# Altium schematic symbol library MCU_ST_STM32L4.SchLib: 320 symbols (part 5 of 9)
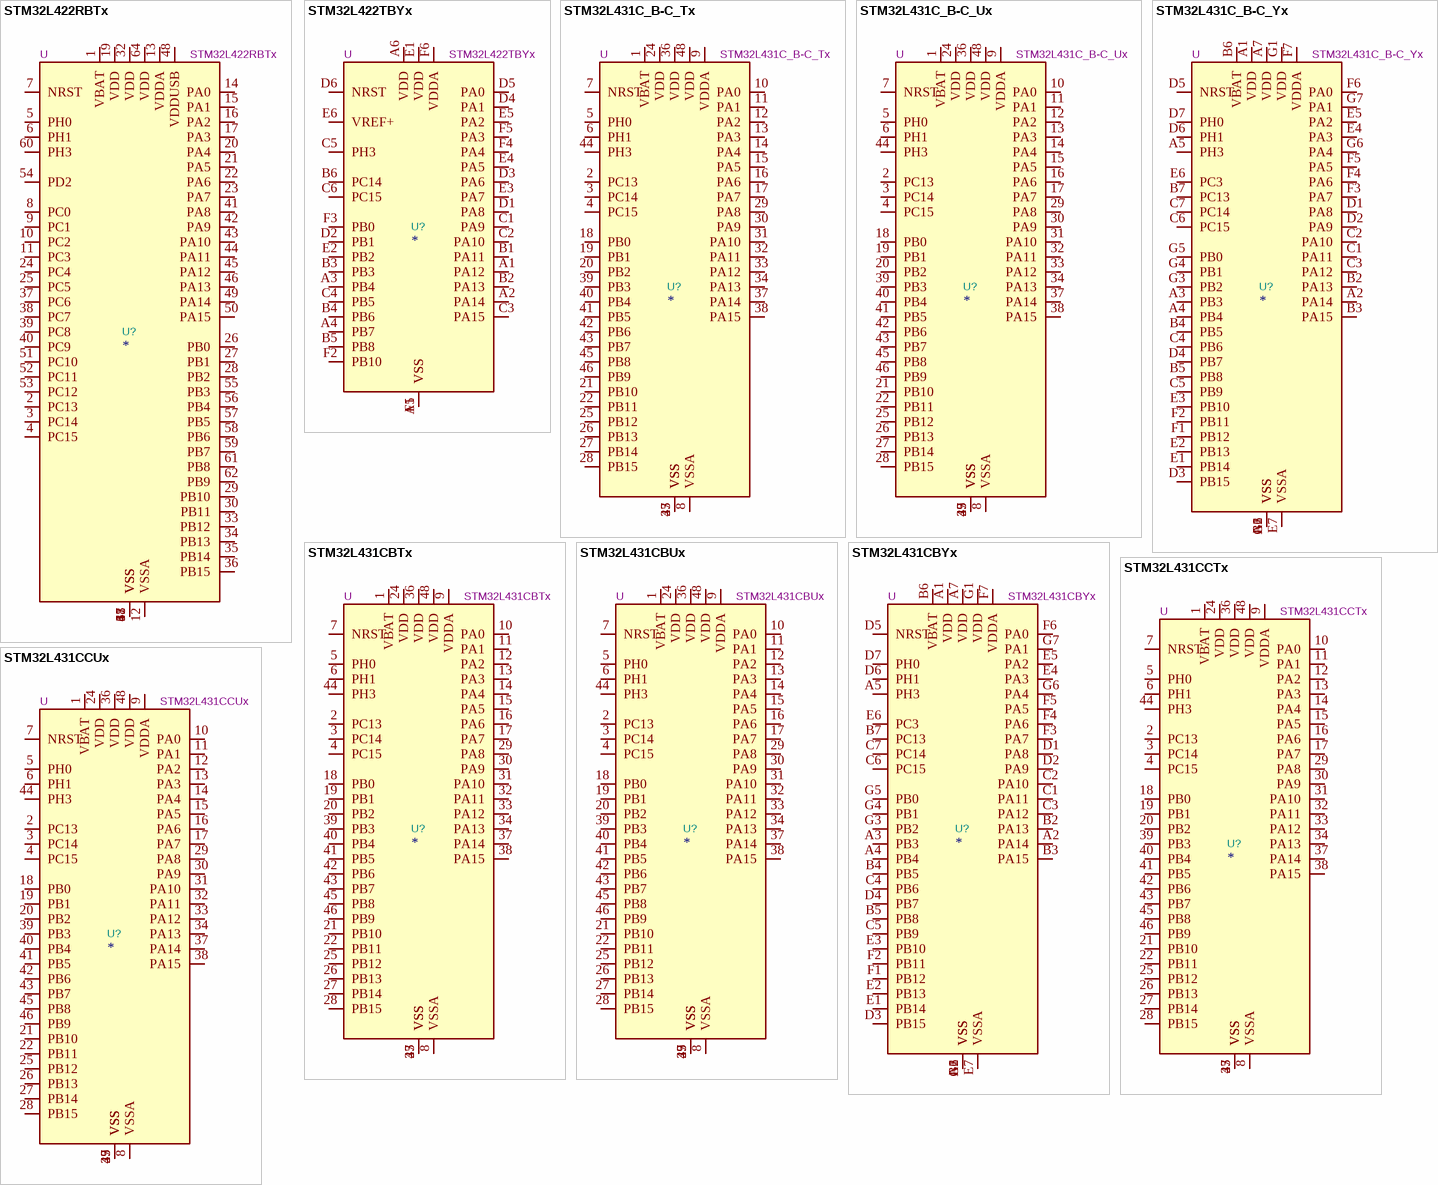
[diagram p67: symbols STM32L422RBTx to STM32L431CCUx]

## STM32L422RBTx
designator U?  value STM32L422RBTx  Reference: U
STMicroelectronics Arm Cortex-M4 MCU, 128KB flash, 40KB RAM, 80 MHz, 1.71-3.6V, 52 GPIO, LQFP64; ki_keywords: Arm Cortex-M4 STM32L4 STM32L4x2; ki_fp_filters: LQFP*10x10mm*P0.5mm*; Footprint: Package_QFP:LQFP-64_10x10mm_P0.5mm; Datasheet: https://www.st.com/resource/en/datasheet/stm32l422rb.pdf; Description_: STMicroelectronics Arm Cortex-M4 MCU, 128KB flash, 40KB RAM, 80 MHz, 1.71-3.6V, 52 GPIO, LQFP64
pins: 1 VBAT, 2 PC13, 3 PC14, 4 PC15, 5 PH0, 6 PH1, 7 NRST, 8 PC0, 9 PC1, 10 PC2, 11 PC3, 12 VSSA, 13 VDDA, 14 PA0, 15 PA1, 16 PA2, 17 PA3, 18 VSS, 19 VDD, 20 PA4, 21 PA5, 22 PA6, 23 PA7, 24 PC4, 25 PC5, 26 PB0, 27 PB1, 28 PB2, 29 PB10, 30 PB11, 31 VSS, 32 VDD, 33 PB12, 34 PB13, 35 PB14, 36 PB15, 37 PC6, 38 PC7, 39 PC8, 40 PC9, 41 PA8, 42 PA9, 43 PA10, 44 PA11, 45 PA12, 46 PA13, 47 VSS, 48 VDDUSB, 49 PA14, 50 PA15, 51 PC10, 52 PC11, 53 PC12, 54 PD2, 55 PB3, 56 PB4, 57 PB5, 58 PB6, 59 PB7, 60 PH3, 61 PB8, 62 PB9, 63 VSS, 64 VDD

## STM32L422TBYx
designator U?  value STM32L422TBYx  Reference: U
STMicroelectronics Arm Cortex-M4 MCU, 128KB flash, 40KB RAM, 80 MHz, 1.71-3.6V, 29 GPIO, WLCSP36; ki_keywords: Arm Cortex-M4 STM32L4 STM32L4x2; ki_fp_filters: ST*WLCSP*2.58x3.07mm*Layout6x6*P0.4mm*; Footprint: Package_CSP:ST_WLCSP-36_2.58x3.07mm_Layout6x6_P0.4mm; Datasheet: https://www.st.com/resource/en/datasheet/stm32l422tb.pdf; Description_: STMicroelectronics Arm Cortex-M4 MCU, 128KB flash, 40KB RAM, 80 MHz, 1.71-3.6V, 29 GPIO, WLCSP36
pins: A1 PA12, A2 PA14, A3 PB4, A4 PB7, A5 VSS, A6 VDD, B1 PA11, B2 PA13, B3 PB3, B4 PB6, B5 PB8, B6 PC14, C1 PA9, C2 PA10, C3 PA15, C4 PB5, C5 PH3, C6 PC15, D1 PA8, D2 PB1, D3 PA6, D4 PA1, D5 PA0, D6 NRST, E1 VDD, E2 PB2, E3 PA7, E4 PA5, E5 PA2, E6 VREF+, F1 VSS, F2 PB10, F3 PB0, F4 PA4, F5 PA3, F6 VDDA

## STM32L431C_B-C_Tx
designator U?  value STM32L431C_B-C_Tx  Reference: U
STMicroelectronics Arm Cortex-M4 MCU, 128-256KB flash, 64KB RAM, 80 MHz, 1.71-3.6V, 38 GPIO, LQFP48; ki_keywords: Arm Cortex-M4 STM32L4 STM32L4x1; ki_fp_filters: LQFP*7x7mm*P0.5mm*; Footprint: Package_QFP:LQFP-48_7x7mm_P0.5mm; Datasheet: https://www.st.com/resource/en/datasheet/stm32l431cb.pdf; Description_: STMicroelectronics Arm Cortex-M4 MCU, 128-256KB flash, 64KB RAM, 80 MHz, 1.71-3.6V, 38 GPIO, LQFP48
pins: 1 VBAT, 2 PC13, 3 PC14, 4 PC15, 5 PH0, 6 PH1, 7 NRST, 8 VSSA, 9 VDDA, 10 PA0, 11 PA1, 12 PA2, 13 PA3, 14 PA4, 15 PA5, 16 PA6, 17 PA7, 18 PB0, 19 PB1, 20 PB2, 21 PB10, 22 PB11, 23 VSS, 24 VDD, 25 PB12, 26 PB13, 27 PB14, 28 PB15, 29 PA8, 30 PA9, 31 PA10, 32 PA11, 33 PA12, 34 PA13, 35 VSS, 36 VDD, 37 PA14, 38 PA15, 39 PB3, 40 PB4, 41 PB5, 42 PB6, 43 PB7, 44 PH3, 45 PB8, 46 PB9, 47 VSS, 48 VDD

## STM32L431C_B-C_Ux
designator U?  value STM32L431C_B-C_Ux  Reference: U
STMicroelectronics Arm Cortex-M4 MCU, 128-256KB flash, 64KB RAM, 80 MHz, 1.71-3.6V, 38 GPIO, UFQFPN48; ki_keywords: Arm Cortex-M4 STM32L4 STM32L4x1; ki_fp_filters: QFN*1EP*7x7mm*P0.5mm*; Footprint: Package_DFN_QFN:QFN-48-1EP_7x7mm_P0.5mm_EP5.6x5.6mm; Datasheet: https://www.st.com/resource/en/datasheet/stm32l431cb.pdf; Description_: STMicroelectronics Arm Cortex-M4 MCU, 128-256KB flash, 64KB RAM, 80 MHz, 1.71-3.6V, 38 GPIO, UFQFPN48
pins: 1 VBAT, 2 PC13, 3 PC14, 4 PC15, 5 PH0, 6 PH1, 7 NRST, 8 VSSA, 9 VDDA, 10 PA0, 11 PA1, 12 PA2, 13 PA3, 14 PA4, 15 PA5, 16 PA6, 17 PA7, 18 PB0, 19 PB1, 20 PB2, 21 PB10, 22 PB11, 23 VSS, 24 VDD, 25 PB12, 26 PB13, 27 PB14, 28 PB15, 29 PA8, 30 PA9, 31 PA10, 32 PA11, 33 PA12, 34 PA13, 35 VSS, 36 VDD, 37 PA14, 38 PA15, 39 PB3, 40 PB4, 41 PB5, 42 PB6, 43 PB7, 44 PH3, 45 PB8, 46 PB9, 47 VSS, 48 VDD, 49 VSS

## STM32L431C_B-C_Yx
designator U?  value STM32L431C_B-C_Yx  Reference: U
STMicroelectronics Arm Cortex-M4 MCU, 128-256KB flash, 64KB RAM, 80 MHz, 1.71-3.6V, 39 GPIO, WLCSP49; ki_keywords: Arm Cortex-M4 STM32L4 STM32L4x1; ki_fp_filters: ST*WLCSP*Die435*; Footprint: Package_CSP:ST_WLCSP-49_Die435; Datasheet: https://www.st.com/resource/en/datasheet/stm32l431cb.pdf; Description_: STMicroelectronics Arm Cortex-M4 MCU, 128-256KB flash, 64KB RAM, 80 MHz, 1.71-3.6V, 39 GPIO, WLCSP49
pins: A1 VDD, A2 PA14, A3 PB3, A4 PB4, A5 PH3, A6 VSS, A7 VDD, B1 VSS, B2 PA13, B3 PA15, B4 PB5, B5 PB8, B6 VBAT, B7 PC13, C1 PA11, C2 PA10, C3 PA12, C4 PB6, C5 PB9, C6 PC15, C7 PC14, D1 PA8, D2 PA9, D3 PB15, D4 PB7, D5 NRST, D6 PH1, D7 PH0, E1 PB14, E2 PB13, E3 PB10, E4 PA3, E5 PA2, E6 PC3, E7 VSSA, F1 PB12, F2 PB11, F3 PA7, F4 PA6, F5 PA5, F6 PA0, F7 VDDA, G1 VDD, G2 VSS, G3 PB2, G4 PB1, G5 PB0, G6 PA4, G7 PA1

## STM32L431CBTx
designator U?  value STM32L431CBTx  Reference: U
STMicroelectronics Arm Cortex-M4 MCU, 128KB flash, 64KB RAM, 80 MHz, 1.71-3.6V, 38 GPIO, LQFP48; ki_keywords: Arm Cortex-M4 STM32L4 STM32L4x1; ki_fp_filters: LQFP*7x7mm*P0.5mm*; Footprint: Package_QFP:LQFP-48_7x7mm_P0.5mm; Datasheet: https://www.st.com/resource/en/datasheet/stm32l431cb.pdf; Description_: STMicroelectronics Arm Cortex-M4 MCU, 128KB flash, 64KB RAM, 80 MHz, 1.71-3.6V, 38 GPIO, LQFP48
pins: 1 VBAT, 2 PC13, 3 PC14, 4 PC15, 5 PH0, 6 PH1, 7 NRST, 8 VSSA, 9 VDDA, 10 PA0, 11 PA1, 12 PA2, 13 PA3, 14 PA4, 15 PA5, 16 PA6, 17 PA7, 18 PB0, 19 PB1, 20 PB2, 21 PB10, 22 PB11, 23 VSS, 24 VDD, 25 PB12, 26 PB13, 27 PB14, 28 PB15, 29 PA8, 30 PA9, 31 PA10, 32 PA11, 33 PA12, 34 PA13, 35 VSS, 36 VDD, 37 PA14, 38 PA15, 39 PB3, 40 PB4, 41 PB5, 42 PB6, 43 PB7, 44 PH3, 45 PB8, 46 PB9, 47 VSS, 48 VDD

## STM32L431CBUx
designator U?  value STM32L431CBUx  Reference: U
STMicroelectronics Arm Cortex-M4 MCU, 128KB flash, 64KB RAM, 80 MHz, 1.71-3.6V, 38 GPIO, UFQFPN48; ki_keywords: Arm Cortex-M4 STM32L4 STM32L4x1; ki_fp_filters: QFN*1EP*7x7mm*P0.5mm*; Footprint: Package_DFN_QFN:QFN-48-1EP_7x7mm_P0.5mm_EP5.6x5.6mm; Datasheet: https://www.st.com/resource/en/datasheet/stm32l431cb.pdf; Description_: STMicroelectronics Arm Cortex-M4 MCU, 128KB flash, 64KB RAM, 80 MHz, 1.71-3.6V, 38 GPIO, UFQFPN48
pins: 1 VBAT, 2 PC13, 3 PC14, 4 PC15, 5 PH0, 6 PH1, 7 NRST, 8 VSSA, 9 VDDA, 10 PA0, 11 PA1, 12 PA2, 13 PA3, 14 PA4, 15 PA5, 16 PA6, 17 PA7, 18 PB0, 19 PB1, 20 PB2, 21 PB10, 22 PB11, 23 VSS, 24 VDD, 25 PB12, 26 PB13, 27 PB14, 28 PB15, 29 PA8, 30 PA9, 31 PA10, 32 PA11, 33 PA12, 34 PA13, 35 VSS, 36 VDD, 37 PA14, 38 PA15, 39 PB3, 40 PB4, 41 PB5, 42 PB6, 43 PB7, 44 PH3, 45 PB8, 46 PB9, 47 VSS, 48 VDD, 49 VSS

## STM32L431CBYx
designator U?  value STM32L431CBYx  Reference: U
STMicroelectronics Arm Cortex-M4 MCU, 128KB flash, 64KB RAM, 80 MHz, 1.71-3.6V, 39 GPIO, WLCSP49; ki_keywords: Arm Cortex-M4 STM32L4 STM32L4x1; ki_fp_filters: ST*WLCSP*Die435*; Footprint: Package_CSP:ST_WLCSP-49_Die435; Datasheet: https://www.st.com/resource/en/datasheet/stm32l431cb.pdf; Description_: STMicroelectronics Arm Cortex-M4 MCU, 128KB flash, 64KB RAM, 80 MHz, 1.71-3.6V, 39 GPIO, WLCSP49
pins: A1 VDD, A2 PA14, A3 PB3, A4 PB4, A5 PH3, A6 VSS, A7 VDD, B1 VSS, B2 PA13, B3 PA15, B4 PB5, B5 PB8, B6 VBAT, B7 PC13, C1 PA11, C2 PA10, C3 PA12, C4 PB6, C5 PB9, C6 PC15, C7 PC14, D1 PA8, D2 PA9, D3 PB15, D4 PB7, D5 NRST, D6 PH1, D7 PH0, E1 PB14, E2 PB13, E3 PB10, E4 PA3, E5 PA2, E6 PC3, E7 VSSA, F1 PB12, F2 PB11, F3 PA7, F4 PA6, F5 PA5, F6 PA0, F7 VDDA, G1 VDD, G2 VSS, G3 PB2, G4 PB1, G5 PB0, G6 PA4, G7 PA1

## STM32L431CCTx
designator U?  value STM32L431CCTx  Reference: U
STMicroelectronics Arm Cortex-M4 MCU, 256KB flash, 64KB RAM, 80 MHz, 1.71-3.6V, 38 GPIO, LQFP48; ki_keywords: Arm Cortex-M4 STM32L4 STM32L4x1; ki_fp_filters: LQFP*7x7mm*P0.5mm*; Footprint: Package_QFP:LQFP-48_7x7mm_P0.5mm; Datasheet: https://www.st.com/resource/en/datasheet/stm32l431cc.pdf; Description_: STMicroelectronics Arm Cortex-M4 MCU, 256KB flash, 64KB RAM, 80 MHz, 1.71-3.6V, 38 GPIO, LQFP48
pins: 1 VBAT, 2 PC13, 3 PC14, 4 PC15, 5 PH0, 6 PH1, 7 NRST, 8 VSSA, 9 VDDA, 10 PA0, 11 PA1, 12 PA2, 13 PA3, 14 PA4, 15 PA5, 16 PA6, 17 PA7, 18 PB0, 19 PB1, 20 PB2, 21 PB10, 22 PB11, 23 VSS, 24 VDD, 25 PB12, 26 PB13, 27 PB14, 28 PB15, 29 PA8, 30 PA9, 31 PA10, 32 PA11, 33 PA12, 34 PA13, 35 VSS, 36 VDD, 37 PA14, 38 PA15, 39 PB3, 40 PB4, 41 PB5, 42 PB6, 43 PB7, 44 PH3, 45 PB8, 46 PB9, 47 VSS, 48 VDD

## STM32L431CCUx
designator U?  value STM32L431CCUx  Reference: U
STMicroelectronics Arm Cortex-M4 MCU, 256KB flash, 64KB RAM, 80 MHz, 1.71-3.6V, 38 GPIO, UFQFPN48; ki_keywords: Arm Cortex-M4 STM32L4 STM32L4x1; ki_fp_filters: QFN*1EP*7x7mm*P0.5mm*; Footprint: Package_DFN_QFN:QFN-48-1EP_7x7mm_P0.5mm_EP5.6x5.6mm; Datasheet: https://www.st.com/resource/en/datasheet/stm32l431cc.pdf; Description_: STMicroelectronics Arm Cortex-M4 MCU, 256KB flash, 64KB RAM, 80 MHz, 1.71-3.6V, 38 GPIO, UFQFPN48
pins: 1 VBAT, 2 PC13, 3 PC14, 4 PC15, 5 PH0, 6 PH1, 7 NRST, 8 VSSA, 9 VDDA, 10 PA0, 11 PA1, 12 PA2, 13 PA3, 14 PA4, 15 PA5, 16 PA6, 17 PA7, 18 PB0, 19 PB1, 20 PB2, 21 PB10, 22 PB11, 23 VSS, 24 VDD, 25 PB12, 26 PB13, 27 PB14, 28 PB15, 29 PA8, 30 PA9, 31 PA10, 32 PA11, 33 PA12, 34 PA13, 35 VSS, 36 VDD, 37 PA14, 38 PA15, 39 PB3, 40 PB4, 41 PB5, 42 PB6, 43 PB7, 44 PH3, 45 PB8, 46 PB9, 47 VSS, 48 VDD, 49 VSS

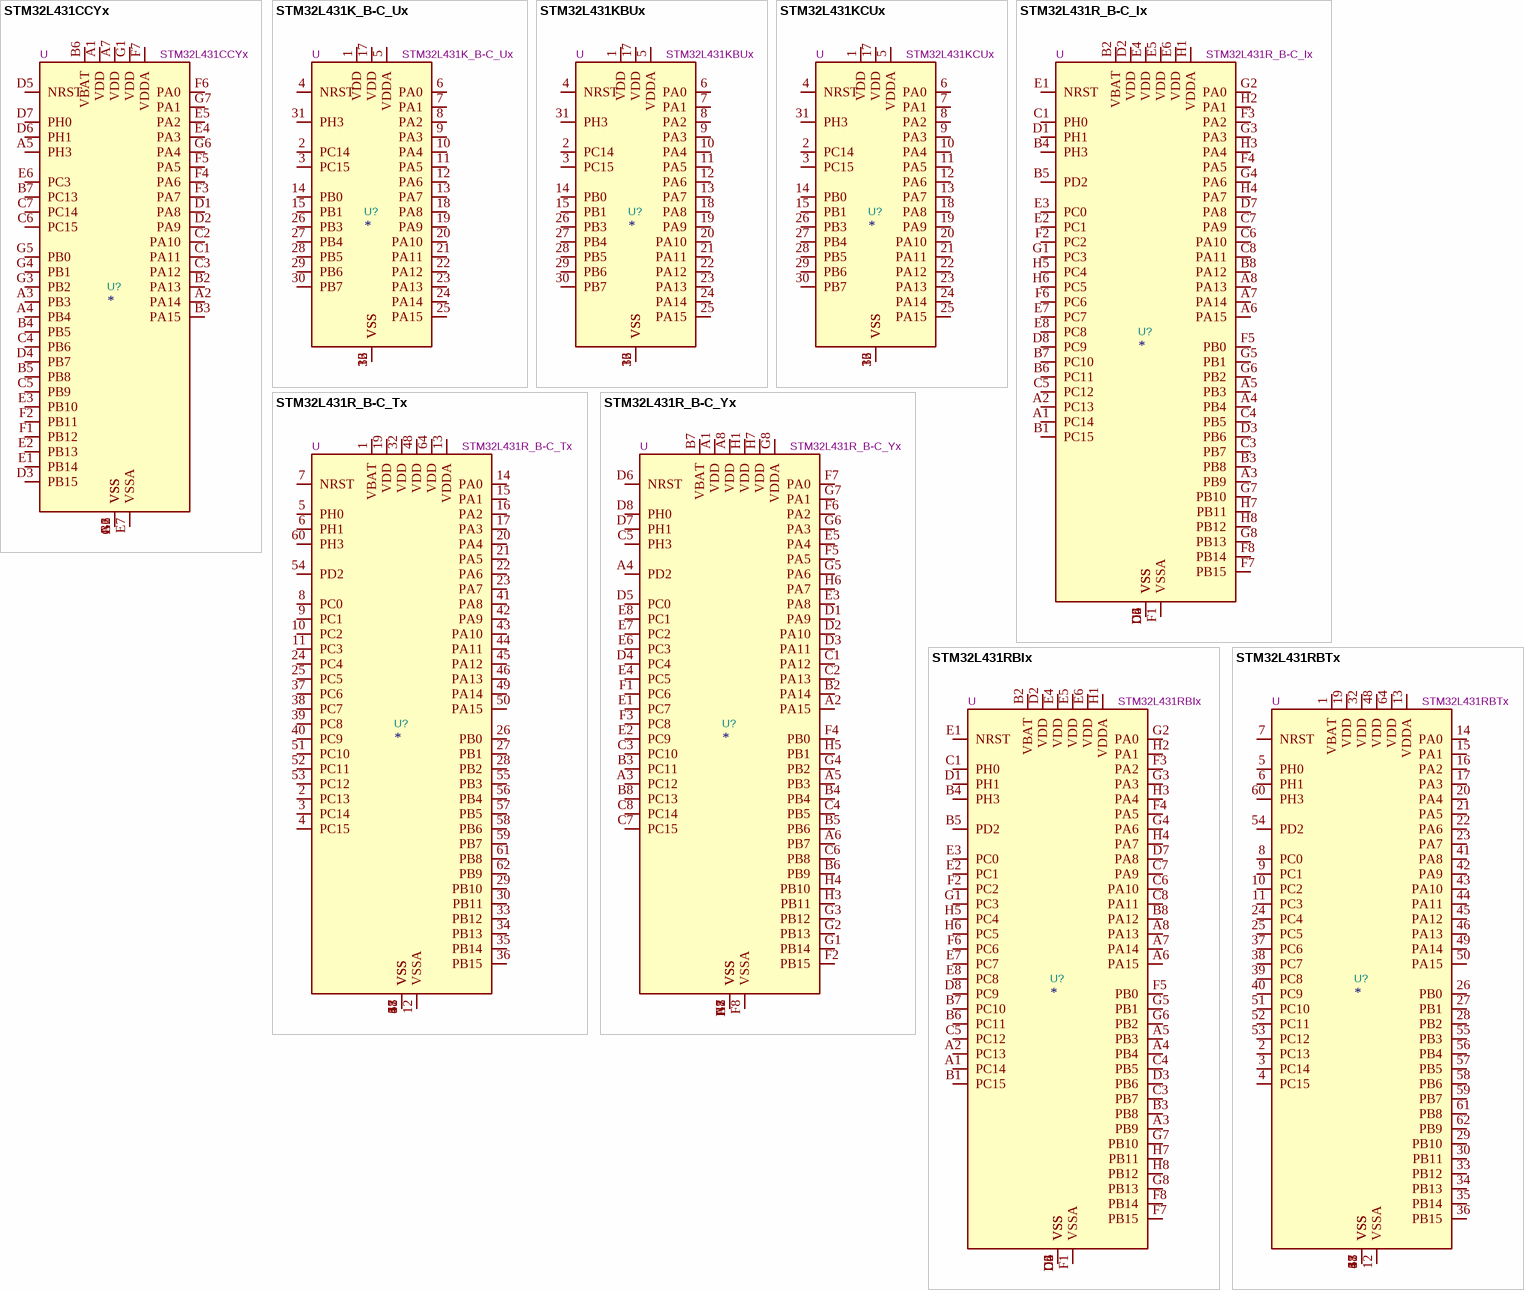
[diagram p35: symbols STM32L431CCYx to STM32L431RBTx]

## STM32L431CCYx
designator U?  value STM32L431CCYx  Reference: U
STMicroelectronics Arm Cortex-M4 MCU, 256KB flash, 64KB RAM, 80 MHz, 1.71-3.6V, 39 GPIO, WLCSP49; ki_keywords: Arm Cortex-M4 STM32L4 STM32L4x1; ki_fp_filters: ST*WLCSP*Die435*; Footprint: Package_CSP:ST_WLCSP-49_Die435; Datasheet: https://www.st.com/resource/en/datasheet/stm32l431cc.pdf; Description_: STMicroelectronics Arm Cortex-M4 MCU, 256KB flash, 64KB RAM, 80 MHz, 1.71-3.6V, 39 GPIO, WLCSP49
pins: A1 VDD, A2 PA14, A3 PB3, A4 PB4, A5 PH3, A6 VSS, A7 VDD, B1 VSS, B2 PA13, B3 PA15, B4 PB5, B5 PB8, B6 VBAT, B7 PC13, C1 PA11, C2 PA10, C3 PA12, C4 PB6, C5 PB9, C6 PC15, C7 PC14, D1 PA8, D2 PA9, D3 PB15, D4 PB7, D5 NRST, D6 PH1, D7 PH0, E1 PB14, E2 PB13, E3 PB10, E4 PA3, E5 PA2, E6 PC3, E7 VSSA, F1 PB12, F2 PB11, F3 PA7, F4 PA6, F5 PA5, F6 PA0, F7 VDDA, G1 VDD, G2 VSS, G3 PB2, G4 PB1, G5 PB0, G6 PA4, G7 PA1

## STM32L431K_B-C_Ux
designator U?  value STM32L431K_B-C_Ux  Reference: U
STMicroelectronics Arm Cortex-M4 MCU, 128-256KB flash, 64KB RAM, 80 MHz, 1.71-3.6V, 26 GPIO, UFQFPN32; ki_keywords: Arm Cortex-M4 STM32L4 STM32L4x1; ki_fp_filters: QFN*1EP*5x5mm*P0.5mm*; Footprint: Package_DFN_QFN:QFN-32-1EP_5x5mm_P0.5mm_EP3.45x3.45mm; Datasheet: https://www.st.com/resource/en/datasheet/stm32l431kb.pdf; Description_: STMicroelectronics Arm Cortex-M4 MCU, 128-256KB flash, 64KB RAM, 80 MHz, 1.71-3.6V, 26 GPIO, UFQFPN32
pins: 1 VDD, 2 PC14, 3 PC15, 4 NRST, 5 VDDA, 6 PA0, 7 PA1, 8 PA2, 9 PA3, 10 PA4, 11 PA5, 12 PA6, 13 PA7, 14 PB0, 15 PB1, 16 VSS, 17 VDD, 18 PA8, 19 PA9, 20 PA10, 21 PA11, 22 PA12, 23 PA13, 24 PA14, 25 PA15, 26 PB3, 27 PB4, 28 PB5, 29 PB6, 30 PB7, 31 PH3, 32 VSS, 33 VSS

## STM32L431KBUx
designator U?  value STM32L431KBUx  Reference: U
STMicroelectronics Arm Cortex-M4 MCU, 128KB flash, 64KB RAM, 80 MHz, 1.71-3.6V, 26 GPIO, UFQFPN32; ki_keywords: Arm Cortex-M4 STM32L4 STM32L4x1; ki_fp_filters: QFN*1EP*5x5mm*P0.5mm*; Footprint: Package_DFN_QFN:QFN-32-1EP_5x5mm_P0.5mm_EP3.45x3.45mm; Datasheet: https://www.st.com/resource/en/datasheet/stm32l431kb.pdf; Description_: STMicroelectronics Arm Cortex-M4 MCU, 128KB flash, 64KB RAM, 80 MHz, 1.71-3.6V, 26 GPIO, UFQFPN32
pins: 1 VDD, 2 PC14, 3 PC15, 4 NRST, 5 VDDA, 6 PA0, 7 PA1, 8 PA2, 9 PA3, 10 PA4, 11 PA5, 12 PA6, 13 PA7, 14 PB0, 15 PB1, 16 VSS, 17 VDD, 18 PA8, 19 PA9, 20 PA10, 21 PA11, 22 PA12, 23 PA13, 24 PA14, 25 PA15, 26 PB3, 27 PB4, 28 PB5, 29 PB6, 30 PB7, 31 PH3, 32 VSS, 33 VSS

## STM32L431KCUx
designator U?  value STM32L431KCUx  Reference: U
STMicroelectronics Arm Cortex-M4 MCU, 256KB flash, 64KB RAM, 80 MHz, 1.71-3.6V, 26 GPIO, UFQFPN32; ki_keywords: Arm Cortex-M4 STM32L4 STM32L4x1; ki_fp_filters: QFN*1EP*5x5mm*P0.5mm*; Footprint: Package_DFN_QFN:QFN-32-1EP_5x5mm_P0.5mm_EP3.45x3.45mm; Datasheet: https://www.st.com/resource/en/datasheet/stm32l431kc.pdf; Description_: STMicroelectronics Arm Cortex-M4 MCU, 256KB flash, 64KB RAM, 80 MHz, 1.71-3.6V, 26 GPIO, UFQFPN32
pins: 1 VDD, 2 PC14, 3 PC15, 4 NRST, 5 VDDA, 6 PA0, 7 PA1, 8 PA2, 9 PA3, 10 PA4, 11 PA5, 12 PA6, 13 PA7, 14 PB0, 15 PB1, 16 VSS, 17 VDD, 18 PA8, 19 PA9, 20 PA10, 21 PA11, 22 PA12, 23 PA13, 24 PA14, 25 PA15, 26 PB3, 27 PB4, 28 PB5, 29 PB6, 30 PB7, 31 PH3, 32 VSS, 33 VSS

## STM32L431R_B-C_Ix
designator U?  value STM32L431R_B-C_Ix  Reference: U
STMicroelectronics Arm Cortex-M4 MCU, 128-256KB flash, 64KB RAM, 80 MHz, 1.71-3.6V, 52 GPIO, UFBGA64; ki_keywords: Arm Cortex-M4 STM32L4 STM32L4x1; ki_fp_filters: UFBGA*5x5mm*Layout8x8*P0.5mm*; Footprint: Package_BGA:UFBGA-64_5x5mm_Layout8x8_P0.5mm; Datasheet: https://www.st.com/resource/en/datasheet/stm32l431rb.pdf; Description_: STMicroelectronics Arm Cortex-M4 MCU, 128-256KB flash, 64KB RAM, 80 MHz, 1.71-3.6V, 52 GPIO, UFBGA64
pins: A1 PC14, A2 PC13, A3 PB9, A4 PB4, A5 PB3, A6 PA15, A7 PA14, A8 PA13, B1 PC15, B2 VBAT, B3 PB8, B4 PH3, B5 PD2, B6 PC11, B7 PC10, B8 PA12, C1 PH0, C2 VSS, C3 PB7, C4 PB5, C5 PC12, C6 PA10, C7 PA9, C8 PA11, D1 PH1, D2 VDD, D3 PB6, D4 VSS, D5 VSS, D6 VSS, D7 PA8, D8 PC9, E1 NRST, E2 PC1, E3 PC0, E4 VDD, E5 VDD, E6 VDD, E7 PC7, E8 PC8, F1 VSSA, F2 PC2, F3 PA2, F4 PA5, F5 PB0, F6 PC6, F7 PB15, F8 PB14, G1 PC3, G2 PA0, G3 PA3, G4 PA6, G5 PB1, G6 PB2, G7 PB10, G8 PB13, H1 VDDA, H2 PA1, H3 PA4, H4 PA7, H5 PC4, H6 PC5, H7 PB11, H8 PB12

## STM32L431R_B-C_Tx
designator U?  value STM32L431R_B-C_Tx  Reference: U
STMicroelectronics Arm Cortex-M4 MCU, 128-256KB flash, 64KB RAM, 80 MHz, 1.71-3.6V, 52 GPIO, LQFP64; ki_keywords: Arm Cortex-M4 STM32L4 STM32L4x1; ki_fp_filters: LQFP*10x10mm*P0.5mm*; Footprint: Package_QFP:LQFP-64_10x10mm_P0.5mm; Datasheet: https://www.st.com/resource/en/datasheet/stm32l431rb.pdf; Description_: STMicroelectronics Arm Cortex-M4 MCU, 128-256KB flash, 64KB RAM, 80 MHz, 1.71-3.6V, 52 GPIO, LQFP64
pins: 1 VBAT, 2 PC13, 3 PC14, 4 PC15, 5 PH0, 6 PH1, 7 NRST, 8 PC0, 9 PC1, 10 PC2, 11 PC3, 12 VSSA, 13 VDDA, 14 PA0, 15 PA1, 16 PA2, 17 PA3, 18 VSS, 19 VDD, 20 PA4, 21 PA5, 22 PA6, 23 PA7, 24 PC4, 25 PC5, 26 PB0, 27 PB1, 28 PB2, 29 PB10, 30 PB11, 31 VSS, 32 VDD, 33 PB12, 34 PB13, 35 PB14, 36 PB15, 37 PC6, 38 PC7, 39 PC8, 40 PC9, 41 PA8, 42 PA9, 43 PA10, 44 PA11, 45 PA12, 46 PA13, 47 VSS, 48 VDD, 49 PA14, 50 PA15, 51 PC10, 52 PC11, 53 PC12, 54 PD2, 55 PB3, 56 PB4, 57 PB5, 58 PB6, 59 PB7, 60 PH3, 61 PB8, 62 PB9, 63 VSS, 64 VDD

## STM32L431R_B-C_Yx
designator U?  value STM32L431R_B-C_Yx  Reference: U
STMicroelectronics Arm Cortex-M4 MCU, 128-256KB flash, 64KB RAM, 80 MHz, 1.71-3.6V, 52 GPIO, WLCSP64; ki_keywords: Arm Cortex-M4 STM32L4 STM32L4x1; ki_fp_filters: ST*WLCSP*Die435*; Footprint: Package_CSP:ST_WLCSP-64_Die435; Datasheet: https://www.st.com/resource/en/datasheet/stm32l431rb.pdf; Description_: STMicroelectronics Arm Cortex-M4 MCU, 128-256KB flash, 64KB RAM, 80 MHz, 1.71-3.6V, 52 GPIO, WLCSP64
pins: A1 VDD, A2 PA15, A3 PC12, A4 PD2, A5 PB3, A6 PB7, A7 VSS, A8 VDD, B1 VSS, B2 PA14, B3 PC11, B4 PB4, B5 PB6, B6 PB9, B7 VBAT, B8 PC13, C1 PA12, C2 PA13, C3 PC10, C4 PB5, C5 PH3, C6 PB8, C7 PC15, C8 PC14, D1 PA9, D2 PA10, D3 PA11, D4 PC4, D5 PC0, D6 NRST, D7 PH1, D8 PH0, E1 PC7, E2 PC9, E3 PA8, E4 PC5, E5 PA4, E6 PC3, E7 PC2, E8 PC1, F1 PC6, F2 PB15, F3 PC8, F4 PB0, F5 PA5, F6 PA2, F7 PA0, F8 VSSA, G1 PB14, G2 PB13, G3 PB12, G4 PB2, G5 PA6, G6 PA3, G7 PA1, G8 VDDA, H1 VDD, H2 VSS, H3 PB11, H4 PB10, H5 PB1, H6 PA7, H7 VDD, H8 VSS

## STM32L431RBIx
designator U?  value STM32L431RBIx  Reference: U
STMicroelectronics Arm Cortex-M4 MCU, 128KB flash, 64KB RAM, 80 MHz, 1.71-3.6V, 52 GPIO, UFBGA64; ki_keywords: Arm Cortex-M4 STM32L4 STM32L4x1; ki_fp_filters: UFBGA*5x5mm*Layout8x8*P0.5mm*; Footprint: Package_BGA:UFBGA-64_5x5mm_Layout8x8_P0.5mm; Datasheet: https://www.st.com/resource/en/datasheet/stm32l431rb.pdf; Description_: STMicroelectronics Arm Cortex-M4 MCU, 128KB flash, 64KB RAM, 80 MHz, 1.71-3.6V, 52 GPIO, UFBGA64
pins: A1 PC14, A2 PC13, A3 PB9, A4 PB4, A5 PB3, A6 PA15, A7 PA14, A8 PA13, B1 PC15, B2 VBAT, B3 PB8, B4 PH3, B5 PD2, B6 PC11, B7 PC10, B8 PA12, C1 PH0, C2 VSS, C3 PB7, C4 PB5, C5 PC12, C6 PA10, C7 PA9, C8 PA11, D1 PH1, D2 VDD, D3 PB6, D4 VSS, D5 VSS, D6 VSS, D7 PA8, D8 PC9, E1 NRST, E2 PC1, E3 PC0, E4 VDD, E5 VDD, E6 VDD, E7 PC7, E8 PC8, F1 VSSA, F2 PC2, F3 PA2, F4 PA5, F5 PB0, F6 PC6, F7 PB15, F8 PB14, G1 PC3, G2 PA0, G3 PA3, G4 PA6, G5 PB1, G6 PB2, G7 PB10, G8 PB13, H1 VDDA, H2 PA1, H3 PA4, H4 PA7, H5 PC4, H6 PC5, H7 PB11, H8 PB12

## STM32L431RBTx
designator U?  value STM32L431RBTx  Reference: U
STMicroelectronics Arm Cortex-M4 MCU, 128KB flash, 64KB RAM, 80 MHz, 1.71-3.6V, 52 GPIO, LQFP64; ki_keywords: Arm Cortex-M4 STM32L4 STM32L4x1; ki_fp_filters: LQFP*10x10mm*P0.5mm*; Footprint: Package_QFP:LQFP-64_10x10mm_P0.5mm; Datasheet: https://www.st.com/resource/en/datasheet/stm32l431rb.pdf; Description_: STMicroelectronics Arm Cortex-M4 MCU, 128KB flash, 64KB RAM, 80 MHz, 1.71-3.6V, 52 GPIO, LQFP64
pins: 1 VBAT, 2 PC13, 3 PC14, 4 PC15, 5 PH0, 6 PH1, 7 NRST, 8 PC0, 9 PC1, 10 PC2, 11 PC3, 12 VSSA, 13 VDDA, 14 PA0, 15 PA1, 16 PA2, 17 PA3, 18 VSS, 19 VDD, 20 PA4, 21 PA5, 22 PA6, 23 PA7, 24 PC4, 25 PC5, 26 PB0, 27 PB1, 28 PB2, 29 PB10, 30 PB11, 31 VSS, 32 VDD, 33 PB12, 34 PB13, 35 PB14, 36 PB15, 37 PC6, 38 PC7, 39 PC8, 40 PC9, 41 PA8, 42 PA9, 43 PA10, 44 PA11, 45 PA12, 46 PA13, 47 VSS, 48 VDD, 49 PA14, 50 PA15, 51 PC10, 52 PC11, 53 PC12, 54 PD2, 55 PB3, 56 PB4, 57 PB5, 58 PB6, 59 PB7, 60 PH3, 61 PB8, 62 PB9, 63 VSS, 64 VDD

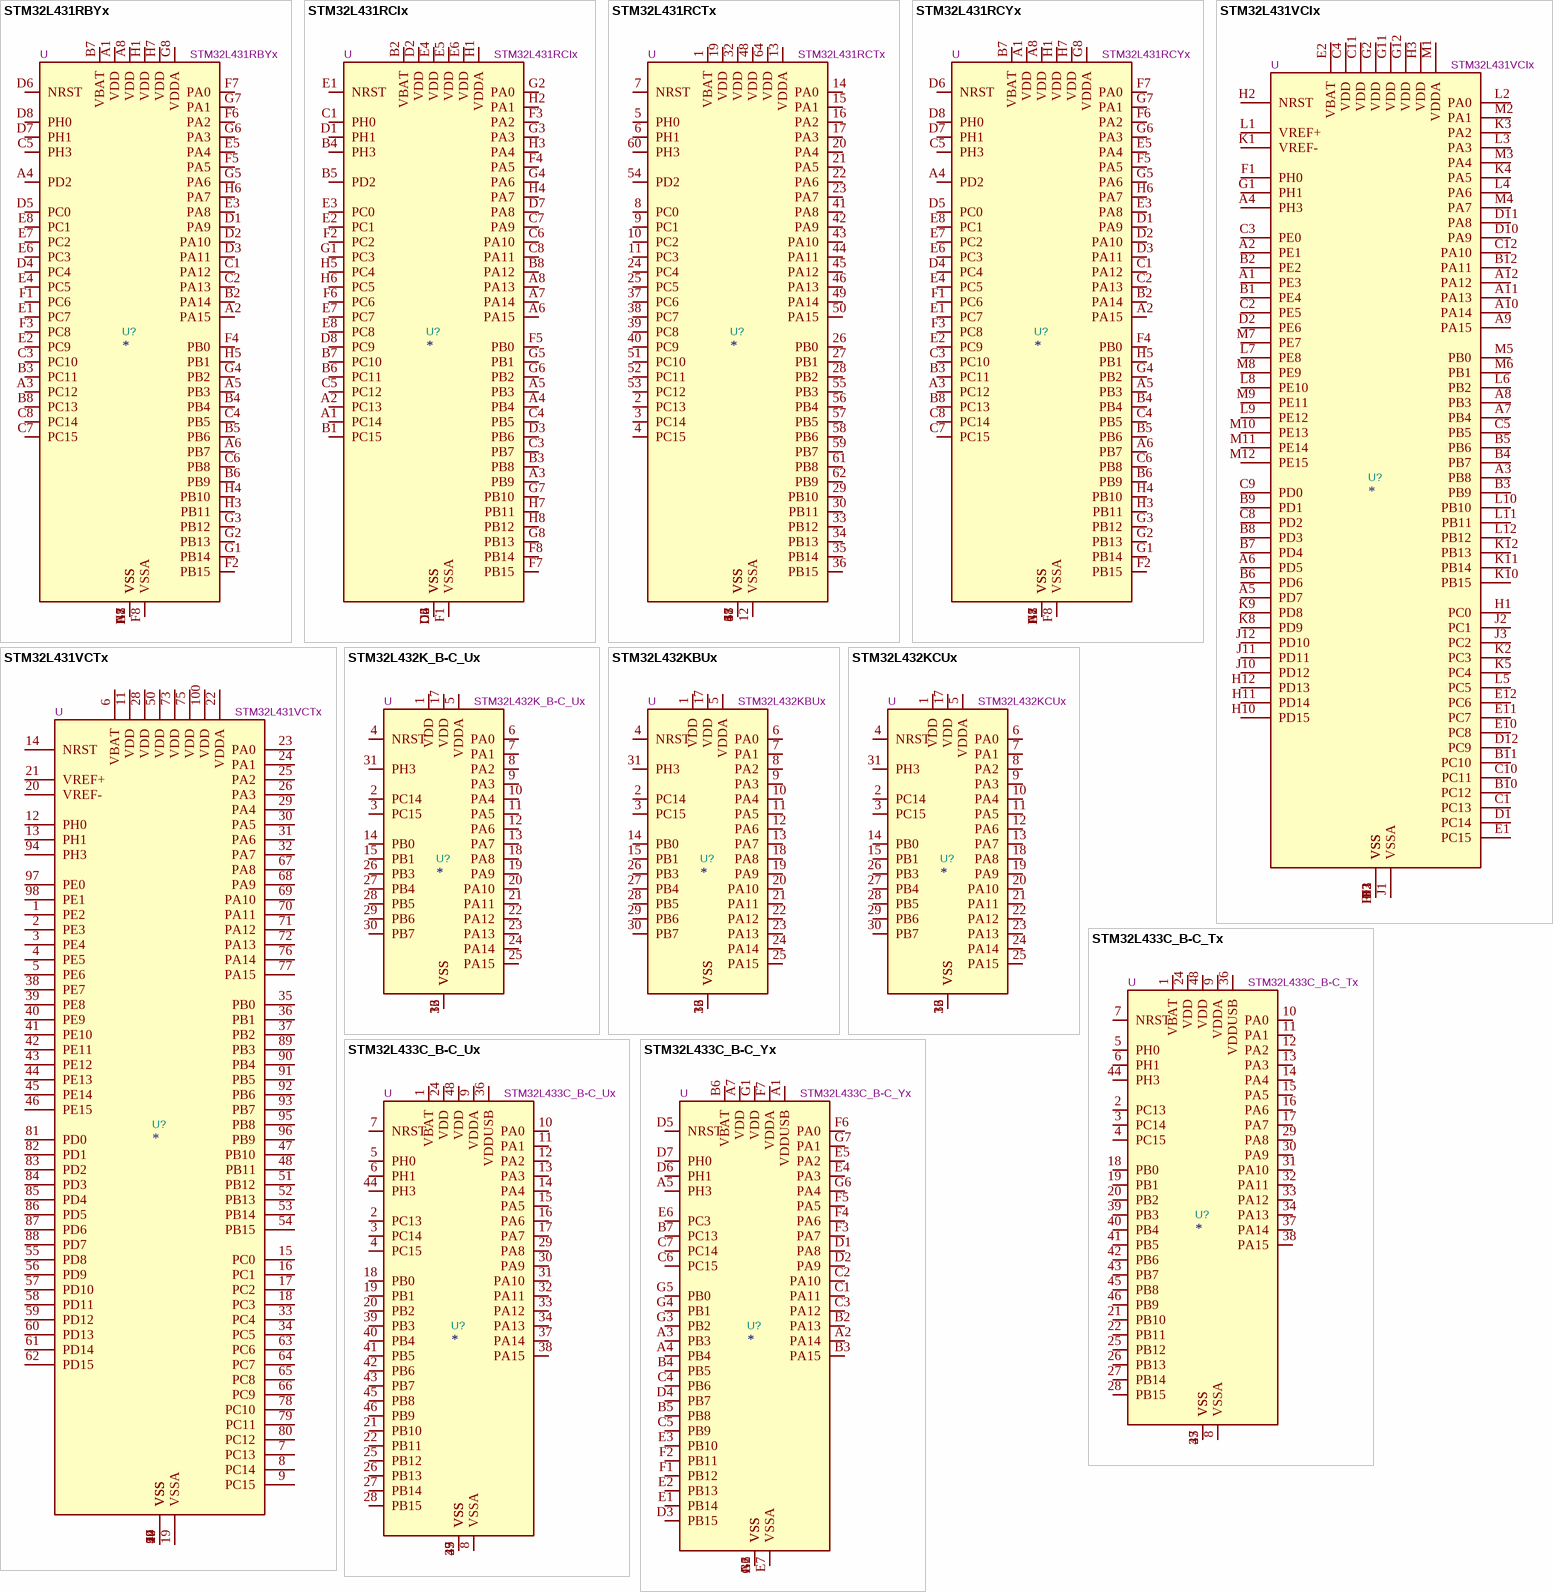
[diagram p36: symbols STM32L431RBYx to STM32L433C_B-C_Yx]

## STM32L431RBYx
designator U?  value STM32L431RBYx  Reference: U
STMicroelectronics Arm Cortex-M4 MCU, 128KB flash, 64KB RAM, 80 MHz, 1.71-3.6V, 52 GPIO, WLCSP64; ki_keywords: Arm Cortex-M4 STM32L4 STM32L4x1; ki_fp_filters: ST*WLCSP*Die435*; Footprint: Package_CSP:ST_WLCSP-64_Die435; Datasheet: https://www.st.com/resource/en/datasheet/stm32l431rb.pdf; Description_: STMicroelectronics Arm Cortex-M4 MCU, 128KB flash, 64KB RAM, 80 MHz, 1.71-3.6V, 52 GPIO, WLCSP64
pins: A1 VDD, A2 PA15, A3 PC12, A4 PD2, A5 PB3, A6 PB7, A7 VSS, A8 VDD, B1 VSS, B2 PA14, B3 PC11, B4 PB4, B5 PB6, B6 PB9, B7 VBAT, B8 PC13, C1 PA12, C2 PA13, C3 PC10, C4 PB5, C5 PH3, C6 PB8, C7 PC15, C8 PC14, D1 PA9, D2 PA10, D3 PA11, D4 PC4, D5 PC0, D6 NRST, D7 PH1, D8 PH0, E1 PC7, E2 PC9, E3 PA8, E4 PC5, E5 PA4, E6 PC3, E7 PC2, E8 PC1, F1 PC6, F2 PB15, F3 PC8, F4 PB0, F5 PA5, F6 PA2, F7 PA0, F8 VSSA, G1 PB14, G2 PB13, G3 PB12, G4 PB2, G5 PA6, G6 PA3, G7 PA1, G8 VDDA, H1 VDD, H2 VSS, H3 PB11, H4 PB10, H5 PB1, H6 PA7, H7 VDD, H8 VSS

## STM32L431RCIx
designator U?  value STM32L431RCIx  Reference: U
STMicroelectronics Arm Cortex-M4 MCU, 256KB flash, 64KB RAM, 80 MHz, 1.71-3.6V, 52 GPIO, UFBGA64; ki_keywords: Arm Cortex-M4 STM32L4 STM32L4x1; ki_fp_filters: UFBGA*5x5mm*Layout8x8*P0.5mm*; Footprint: Package_BGA:UFBGA-64_5x5mm_Layout8x8_P0.5mm; Datasheet: https://www.st.com/resource/en/datasheet/stm32l431rc.pdf; Description_: STMicroelectronics Arm Cortex-M4 MCU, 256KB flash, 64KB RAM, 80 MHz, 1.71-3.6V, 52 GPIO, UFBGA64
pins: A1 PC14, A2 PC13, A3 PB9, A4 PB4, A5 PB3, A6 PA15, A7 PA14, A8 PA13, B1 PC15, B2 VBAT, B3 PB8, B4 PH3, B5 PD2, B6 PC11, B7 PC10, B8 PA12, C1 PH0, C2 VSS, C3 PB7, C4 PB5, C5 PC12, C6 PA10, C7 PA9, C8 PA11, D1 PH1, D2 VDD, D3 PB6, D4 VSS, D5 VSS, D6 VSS, D7 PA8, D8 PC9, E1 NRST, E2 PC1, E3 PC0, E4 VDD, E5 VDD, E6 VDD, E7 PC7, E8 PC8, F1 VSSA, F2 PC2, F3 PA2, F4 PA5, F5 PB0, F6 PC6, F7 PB15, F8 PB14, G1 PC3, G2 PA0, G3 PA3, G4 PA6, G5 PB1, G6 PB2, G7 PB10, G8 PB13, H1 VDDA, H2 PA1, H3 PA4, H4 PA7, H5 PC4, H6 PC5, H7 PB11, H8 PB12

## STM32L431RCTx
designator U?  value STM32L431RCTx  Reference: U
STMicroelectronics Arm Cortex-M4 MCU, 256KB flash, 64KB RAM, 80 MHz, 1.71-3.6V, 52 GPIO, LQFP64; ki_keywords: Arm Cortex-M4 STM32L4 STM32L4x1; ki_fp_filters: LQFP*10x10mm*P0.5mm*; Footprint: Package_QFP:LQFP-64_10x10mm_P0.5mm; Datasheet: https://www.st.com/resource/en/datasheet/stm32l431rc.pdf; Description_: STMicroelectronics Arm Cortex-M4 MCU, 256KB flash, 64KB RAM, 80 MHz, 1.71-3.6V, 52 GPIO, LQFP64
pins: 1 VBAT, 2 PC13, 3 PC14, 4 PC15, 5 PH0, 6 PH1, 7 NRST, 8 PC0, 9 PC1, 10 PC2, 11 PC3, 12 VSSA, 13 VDDA, 14 PA0, 15 PA1, 16 PA2, 17 PA3, 18 VSS, 19 VDD, 20 PA4, 21 PA5, 22 PA6, 23 PA7, 24 PC4, 25 PC5, 26 PB0, 27 PB1, 28 PB2, 29 PB10, 30 PB11, 31 VSS, 32 VDD, 33 PB12, 34 PB13, 35 PB14, 36 PB15, 37 PC6, 38 PC7, 39 PC8, 40 PC9, 41 PA8, 42 PA9, 43 PA10, 44 PA11, 45 PA12, 46 PA13, 47 VSS, 48 VDD, 49 PA14, 50 PA15, 51 PC10, 52 PC11, 53 PC12, 54 PD2, 55 PB3, 56 PB4, 57 PB5, 58 PB6, 59 PB7, 60 PH3, 61 PB8, 62 PB9, 63 VSS, 64 VDD

## STM32L431RCYx
designator U?  value STM32L431RCYx  Reference: U
STMicroelectronics Arm Cortex-M4 MCU, 256KB flash, 64KB RAM, 80 MHz, 1.71-3.6V, 52 GPIO, WLCSP64; ki_keywords: Arm Cortex-M4 STM32L4 STM32L4x1; ki_fp_filters: ST*WLCSP*Die435*; Footprint: Package_CSP:ST_WLCSP-64_Die435; Datasheet: https://www.st.com/resource/en/datasheet/stm32l431rc.pdf; Description_: STMicroelectronics Arm Cortex-M4 MCU, 256KB flash, 64KB RAM, 80 MHz, 1.71-3.6V, 52 GPIO, WLCSP64
pins: A1 VDD, A2 PA15, A3 PC12, A4 PD2, A5 PB3, A6 PB7, A7 VSS, A8 VDD, B1 VSS, B2 PA14, B3 PC11, B4 PB4, B5 PB6, B6 PB9, B7 VBAT, B8 PC13, C1 PA12, C2 PA13, C3 PC10, C4 PB5, C5 PH3, C6 PB8, C7 PC15, C8 PC14, D1 PA9, D2 PA10, D3 PA11, D4 PC4, D5 PC0, D6 NRST, D7 PH1, D8 PH0, E1 PC7, E2 PC9, E3 PA8, E4 PC5, E5 PA4, E6 PC3, E7 PC2, E8 PC1, F1 PC6, F2 PB15, F3 PC8, F4 PB0, F5 PA5, F6 PA2, F7 PA0, F8 VSSA, G1 PB14, G2 PB13, G3 PB12, G4 PB2, G5 PA6, G6 PA3, G7 PA1, G8 VDDA, H1 VDD, H2 VSS, H3 PB11, H4 PB10, H5 PB1, H6 PA7, H7 VDD, H8 VSS

## STM32L431VCIx
designator U?  value STM32L431VCIx  Reference: U
STMicroelectronics Arm Cortex-M4 MCU, 256KB flash, 64KB RAM, 80 MHz, 1.71-3.6V, 83 GPIO, UFBGA100; ki_keywords: Arm Cortex-M4 STM32L4 STM32L4x1; ki_fp_filters: UFBGA*7x7mm*Layout12x12*P0.5mm*; Footprint: Package_BGA:UFBGA-100_7x7mm_Layout12x12_P0.5mm; Datasheet: https://www.st.com/resource/en/datasheet/stm32l431vc.pdf; Description_: STMicroelectronics Arm Cortex-M4 MCU, 256KB flash, 64KB RAM, 80 MHz, 1.71-3.6V, 83 GPIO, UFBGA100
pins: A1 PE3, A2 PE1, A3 PB8, A4 PH3, A5 PD7, A6 PD5, A7 PB4, A8 PB3, A9 PA15, A10 PA14, A11 PA13, A12 PA12, B1 PE4, B2 PE2, B3 PB9, B4 PB7, B5 PB6, B6 PD6, B7 PD4, B8 PD3, B9 PD1, B10 PC12, B11 PC10, B12 PA11, C1 PC13, C2 PE5, C3 PE0, C4 VDD, C5 PB5, C8 PD2, C9 PD0, C10 PC11, C11 VDD, C12 PA10, D1 PC14, D2 PE6, D3 VSS, D10 PA9, D11 PA8, D12 PC9, E1 PC15, E2 VBAT, E3 VSS, E10 PC8, E11 PC7, E12 PC6, F1 PH0, F2 VSS, F11 VSS, F12 VSS, G1 PH1, G2 VDD, G11 VDD, G12 VDD, H1 PC0, H2 NRST, H3 VDD, H10 PD15, H11 PD14, H12 PD13, J1 VSSA, J2 PC1, J3 PC2, J10 PD12, J11 PD11, J12 PD10, K1 VREF-, K2 PC3, K3 PA2, K4 PA5, K5 PC4, K8 PD9, K9 PD8, K10 PB15, K11 PB14, K12 PB13, L1 VREF+, L2 PA0, L3 PA3, L4 PA6, L5 PC5, L6 PB2, L7 PE8, L8 PE10, L9 PE12, L10 PB10, L11 PB11, L12 PB12, M1 VDDA, M2 PA1, M3 PA4, M4 PA7, M5 PB0, M6 PB1, M7 PE7, M8 PE9, M9 PE11, M10 PE13, M11 PE14, M12 PE15

## STM32L431VCTx
designator U?  value STM32L431VCTx  Reference: U
STMicroelectronics Arm Cortex-M4 MCU, 256KB flash, 64KB RAM, 80 MHz, 1.71-3.6V, 83 GPIO, LQFP100; ki_keywords: Arm Cortex-M4 STM32L4 STM32L4x1; ki_fp_filters: LQFP*14x14mm*P0.5mm*; Footprint: Package_QFP:LQFP-100_14x14mm_P0.5mm; Datasheet: https://www.st.com/resource/en/datasheet/stm32l431vc.pdf; Description_: STMicroelectronics Arm Cortex-M4 MCU, 256KB flash, 64KB RAM, 80 MHz, 1.71-3.6V, 83 GPIO, LQFP100
pins: 1 PE2, 2 PE3, 3 PE4, 4 PE5, 5 PE6, 6 VBAT, 7 PC13, 8 PC14, 9 PC15, 10 VSS, 11 VDD, 12 PH0, 13 PH1, 14 NRST, 15 PC0, 16 PC1, 17 PC2, 18 PC3, 19 VSSA, 20 VREF-, 21 VREF+, 22 VDDA, 23 PA0, 24 PA1, 25 PA2, 26 PA3, 27 VSS, 28 VDD, 29 PA4, 30 PA5, 31 PA6, 32 PA7, 33 PC4, 34 PC5, 35 PB0, 36 PB1, 37 PB2, 38 PE7, 39 PE8, 40 PE9, 41 PE10, 42 PE11, 43 PE12, 44 PE13, 45 PE14, 46 PE15, 47 PB10, 48 PB11, 49 VSS, 50 VDD, 51 PB12, 52 PB13, 53 PB14, 54 PB15, 55 PD8, 56 PD9, 57 PD10, 58 PD11, 59 PD12, 60 PD13, 61 PD14, 62 PD15, 63 PC6, 64 PC7, 65 PC8, 66 PC9, 67 PA8, 68 PA9, 69 PA10, 70 PA11, 71 PA12, 72 PA13, 73 VDD, 74 VSS, 75 VDD, 76 PA14, 77 PA15, 78 PC10, 79 PC11, 80 PC12, 81 PD0, 82 PD1, 83 PD2, 84 PD3, 85 PD4, 86 PD5, 87 PD6, 88 PD7, 89 PB3, 90 PB4, 91 PB5, 92 PB6, 93 PB7, 94 PH3, 95 PB8, 96 PB9, 97 PE0, 98 PE1, 99 VSS, 100 VDD

## STM32L432K_B-C_Ux
designator U?  value STM32L432K_B-C_Ux  Reference: U
STMicroelectronics Arm Cortex-M4 MCU, 128-256KB flash, 64KB RAM, 80 MHz, 1.71-3.6V, 26 GPIO, UFQFPN32; ki_keywords: Arm Cortex-M4 STM32L4 STM32L4x2; ki_fp_filters: QFN*1EP*5x5mm*P0.5mm*; Footprint: Package_DFN_QFN:QFN-32-1EP_5x5mm_P0.5mm_EP3.45x3.45mm; Datasheet: https://www.st.com/resource/en/datasheet/stm32l432kb.pdf; Description_: STMicroelectronics Arm Cortex-M4 MCU, 128-256KB flash, 64KB RAM, 80 MHz, 1.71-3.6V, 26 GPIO, UFQFPN32
pins: 1 VDD, 2 PC14, 3 PC15, 4 NRST, 5 VDDA, 6 PA0, 7 PA1, 8 PA2, 9 PA3, 10 PA4, 11 PA5, 12 PA6, 13 PA7, 14 PB0, 15 PB1, 16 VSS, 17 VDD, 18 PA8, 19 PA9, 20 PA10, 21 PA11, 22 PA12, 23 PA13, 24 PA14, 25 PA15, 26 PB3, 27 PB4, 28 PB5, 29 PB6, 30 PB7, 31 PH3, 32 VSS, 33 VSS

## STM32L432KBUx
designator U?  value STM32L432KBUx  Reference: U
STMicroelectronics Arm Cortex-M4 MCU, 128KB flash, 64KB RAM, 80 MHz, 1.71-3.6V, 26 GPIO, UFQFPN32; ki_keywords: Arm Cortex-M4 STM32L4 STM32L4x2; ki_fp_filters: QFN*1EP*5x5mm*P0.5mm*; Footprint: Package_DFN_QFN:QFN-32-1EP_5x5mm_P0.5mm_EP3.45x3.45mm; Datasheet: https://www.st.com/resource/en/datasheet/stm32l432kb.pdf; Description_: STMicroelectronics Arm Cortex-M4 MCU, 128KB flash, 64KB RAM, 80 MHz, 1.71-3.6V, 26 GPIO, UFQFPN32
pins: 1 VDD, 2 PC14, 3 PC15, 4 NRST, 5 VDDA, 6 PA0, 7 PA1, 8 PA2, 9 PA3, 10 PA4, 11 PA5, 12 PA6, 13 PA7, 14 PB0, 15 PB1, 16 VSS, 17 VDD, 18 PA8, 19 PA9, 20 PA10, 21 PA11, 22 PA12, 23 PA13, 24 PA14, 25 PA15, 26 PB3, 27 PB4, 28 PB5, 29 PB6, 30 PB7, 31 PH3, 32 VSS, 33 VSS

## STM32L432KCUx
designator U?  value STM32L432KCUx  Reference: U
STMicroelectronics Arm Cortex-M4 MCU, 256KB flash, 64KB RAM, 80 MHz, 1.71-3.6V, 26 GPIO, UFQFPN32; ki_keywords: Arm Cortex-M4 STM32L4 STM32L4x2; ki_fp_filters: QFN*1EP*5x5mm*P0.5mm*; Footprint: Package_DFN_QFN:QFN-32-1EP_5x5mm_P0.5mm_EP3.45x3.45mm; Datasheet: https://www.st.com/resource/en/datasheet/stm32l432kc.pdf; Description_: STMicroelectronics Arm Cortex-M4 MCU, 256KB flash, 64KB RAM, 80 MHz, 1.71-3.6V, 26 GPIO, UFQFPN32
pins: 1 VDD, 2 PC14, 3 PC15, 4 NRST, 5 VDDA, 6 PA0, 7 PA1, 8 PA2, 9 PA3, 10 PA4, 11 PA5, 12 PA6, 13 PA7, 14 PB0, 15 PB1, 16 VSS, 17 VDD, 18 PA8, 19 PA9, 20 PA10, 21 PA11, 22 PA12, 23 PA13, 24 PA14, 25 PA15, 26 PB3, 27 PB4, 28 PB5, 29 PB6, 30 PB7, 31 PH3, 32 VSS, 33 VSS

## STM32L433C_B-C_Tx
designator U?  value STM32L433C_B-C_Tx  Reference: U
STMicroelectronics Arm Cortex-M4 MCU, 128-256KB flash, 64KB RAM, 80 MHz, 1.71-3.6V, 38 GPIO, LQFP48; ki_keywords: Arm Cortex-M4 STM32L4 STM32L4x3; ki_fp_filters: LQFP*7x7mm*P0.5mm*; Footprint: Package_QFP:LQFP-48_7x7mm_P0.5mm; Datasheet: https://www.st.com/resource/en/datasheet/stm32l433cb.pdf; Description_: STMicroelectronics Arm Cortex-M4 MCU, 128-256KB flash, 64KB RAM, 80 MHz, 1.71-3.6V, 38 GPIO, LQFP48
pins: 1 VBAT, 2 PC13, 3 PC14, 4 PC15, 5 PH0, 6 PH1, 7 NRST, 8 VSSA, 9 VDDA, 10 PA0, 11 PA1, 12 PA2, 13 PA3, 14 PA4, 15 PA5, 16 PA6, 17 PA7, 18 PB0, 19 PB1, 20 PB2, 21 PB10, 22 PB11, 23 VSS, 24 VDD, 25 PB12, 26 PB13, 27 PB14, 28 PB15, 29 PA8, 30 PA9, 31 PA10, 32 PA11, 33 PA12, 34 PA13, 35 VSS, 36 VDDUSB, 37 PA14, 38 PA15, 39 PB3, 40 PB4, 41 PB5, 42 PB6, 43 PB7, 44 PH3, 45 PB8, 46 PB9, 47 VSS, 48 VDD

## STM32L433C_B-C_Ux
designator U?  value STM32L433C_B-C_Ux  Reference: U
STMicroelectronics Arm Cortex-M4 MCU, 128-256KB flash, 64KB RAM, 80 MHz, 1.71-3.6V, 38 GPIO, UFQFPN48; ki_keywords: Arm Cortex-M4 STM32L4 STM32L4x3; ki_fp_filters: QFN*1EP*7x7mm*P0.5mm*; Footprint: Package_DFN_QFN:QFN-48-1EP_7x7mm_P0.5mm_EP5.6x5.6mm; Datasheet: https://www.st.com/resource/en/datasheet/stm32l433cb.pdf; Description_: STMicroelectronics Arm Cortex-M4 MCU, 128-256KB flash, 64KB RAM, 80 MHz, 1.71-3.6V, 38 GPIO, UFQFPN48
pins: 1 VBAT, 2 PC13, 3 PC14, 4 PC15, 5 PH0, 6 PH1, 7 NRST, 8 VSSA, 9 VDDA, 10 PA0, 11 PA1, 12 PA2, 13 PA3, 14 PA4, 15 PA5, 16 PA6, 17 PA7, 18 PB0, 19 PB1, 20 PB2, 21 PB10, 22 PB11, 23 VSS, 24 VDD, 25 PB12, 26 PB13, 27 PB14, 28 PB15, 29 PA8, 30 PA9, 31 PA10, 32 PA11, 33 PA12, 34 PA13, 35 VSS, 36 VDDUSB, 37 PA14, 38 PA15, 39 PB3, 40 PB4, 41 PB5, 42 PB6, 43 PB7, 44 PH3, 45 PB8, 46 PB9, 47 VSS, 48 VDD, 49 VSS

## STM32L433C_B-C_Yx
designator U?  value STM32L433C_B-C_Yx  Reference: U
STMicroelectronics Arm Cortex-M4 MCU, 128-256KB flash, 64KB RAM, 80 MHz, 1.71-3.6V, 39 GPIO, WLCSP49; ki_keywords: Arm Cortex-M4 STM32L4 STM32L4x3; ki_fp_filters: ST*WLCSP*Die435*; Footprint: Package_CSP:ST_WLCSP-49_Die435; Datasheet: https://www.st.com/resource/en/datasheet/stm32l433cb.pdf; Description_: STMicroelectronics Arm Cortex-M4 MCU, 128-256KB flash, 64KB RAM, 80 MHz, 1.71-3.6V, 39 GPIO, WLCSP49
pins: A1 VDDUSB, A2 PA14, A3 PB3, A4 PB4, A5 PH3, A6 VSS, A7 VDD, B1 VSS, B2 PA13, B3 PA15, B4 PB5, B5 PB8, B6 VBAT, B7 PC13, C1 PA11, C2 PA10, C3 PA12, C4 PB6, C5 PB9, C6 PC15, C7 PC14, D1 PA8, D2 PA9, D3 PB15, D4 PB7, D5 NRST, D6 PH1, D7 PH0, E1 PB14, E2 PB13, E3 PB10, E4 PA3, E5 PA2, E6 PC3, E7 VSSA, F1 PB12, F2 PB11, F3 PA7, F4 PA6, F5 PA5, F6 PA0, F7 VDDA, G1 VDD, G2 VSS, G3 PB2, G4 PB1, G5 PB0, G6 PA4, G7 PA1

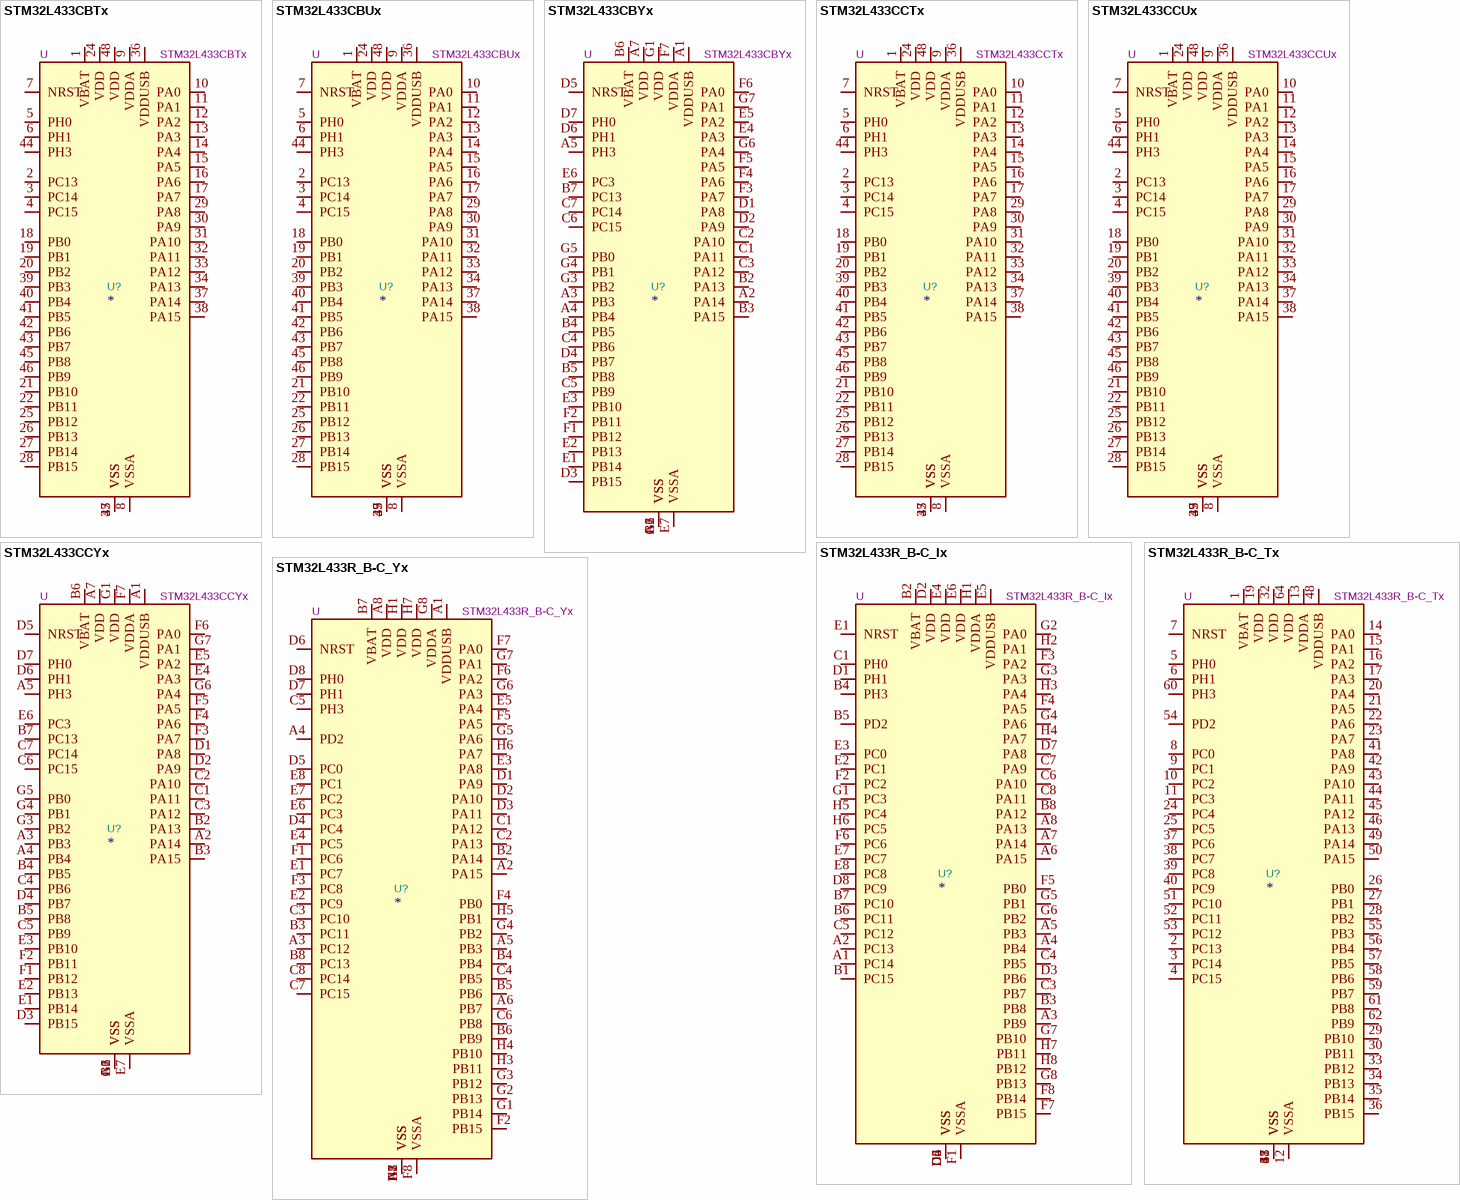
[diagram p37: symbols STM32L433CBTx to STM32L433R_B-C_Yx]

## STM32L433CBTx
designator U?  value STM32L433CBTx  Reference: U
STMicroelectronics Arm Cortex-M4 MCU, 128KB flash, 64KB RAM, 80 MHz, 1.71-3.6V, 38 GPIO, LQFP48; ki_keywords: Arm Cortex-M4 STM32L4 STM32L4x3; ki_fp_filters: LQFP*7x7mm*P0.5mm*; Footprint: Package_QFP:LQFP-48_7x7mm_P0.5mm; Datasheet: https://www.st.com/resource/en/datasheet/stm32l433cb.pdf; Description_: STMicroelectronics Arm Cortex-M4 MCU, 128KB flash, 64KB RAM, 80 MHz, 1.71-3.6V, 38 GPIO, LQFP48
pins: 1 VBAT, 2 PC13, 3 PC14, 4 PC15, 5 PH0, 6 PH1, 7 NRST, 8 VSSA, 9 VDDA, 10 PA0, 11 PA1, 12 PA2, 13 PA3, 14 PA4, 15 PA5, 16 PA6, 17 PA7, 18 PB0, 19 PB1, 20 PB2, 21 PB10, 22 PB11, 23 VSS, 24 VDD, 25 PB12, 26 PB13, 27 PB14, 28 PB15, 29 PA8, 30 PA9, 31 PA10, 32 PA11, 33 PA12, 34 PA13, 35 VSS, 36 VDDUSB, 37 PA14, 38 PA15, 39 PB3, 40 PB4, 41 PB5, 42 PB6, 43 PB7, 44 PH3, 45 PB8, 46 PB9, 47 VSS, 48 VDD

## STM32L433CBUx
designator U?  value STM32L433CBUx  Reference: U
STMicroelectronics Arm Cortex-M4 MCU, 128KB flash, 64KB RAM, 80 MHz, 1.71-3.6V, 38 GPIO, UFQFPN48; ki_keywords: Arm Cortex-M4 STM32L4 STM32L4x3; ki_fp_filters: QFN*1EP*7x7mm*P0.5mm*; Footprint: Package_DFN_QFN:QFN-48-1EP_7x7mm_P0.5mm_EP5.6x5.6mm; Datasheet: https://www.st.com/resource/en/datasheet/stm32l433cb.pdf; Description_: STMicroelectronics Arm Cortex-M4 MCU, 128KB flash, 64KB RAM, 80 MHz, 1.71-3.6V, 38 GPIO, UFQFPN48
pins: 1 VBAT, 2 PC13, 3 PC14, 4 PC15, 5 PH0, 6 PH1, 7 NRST, 8 VSSA, 9 VDDA, 10 PA0, 11 PA1, 12 PA2, 13 PA3, 14 PA4, 15 PA5, 16 PA6, 17 PA7, 18 PB0, 19 PB1, 20 PB2, 21 PB10, 22 PB11, 23 VSS, 24 VDD, 25 PB12, 26 PB13, 27 PB14, 28 PB15, 29 PA8, 30 PA9, 31 PA10, 32 PA11, 33 PA12, 34 PA13, 35 VSS, 36 VDDUSB, 37 PA14, 38 PA15, 39 PB3, 40 PB4, 41 PB5, 42 PB6, 43 PB7, 44 PH3, 45 PB8, 46 PB9, 47 VSS, 48 VDD, 49 VSS

## STM32L433CBYx
designator U?  value STM32L433CBYx  Reference: U
STMicroelectronics Arm Cortex-M4 MCU, 128KB flash, 64KB RAM, 80 MHz, 1.71-3.6V, 39 GPIO, WLCSP49; ki_keywords: Arm Cortex-M4 STM32L4 STM32L4x3; ki_fp_filters: ST*WLCSP*Die435*; Footprint: Package_CSP:ST_WLCSP-49_Die435; Datasheet: https://www.st.com/resource/en/datasheet/stm32l433cb.pdf; Description_: STMicroelectronics Arm Cortex-M4 MCU, 128KB flash, 64KB RAM, 80 MHz, 1.71-3.6V, 39 GPIO, WLCSP49
pins: A1 VDDUSB, A2 PA14, A3 PB3, A4 PB4, A5 PH3, A6 VSS, A7 VDD, B1 VSS, B2 PA13, B3 PA15, B4 PB5, B5 PB8, B6 VBAT, B7 PC13, C1 PA11, C2 PA10, C3 PA12, C4 PB6, C5 PB9, C6 PC15, C7 PC14, D1 PA8, D2 PA9, D3 PB15, D4 PB7, D5 NRST, D6 PH1, D7 PH0, E1 PB14, E2 PB13, E3 PB10, E4 PA3, E5 PA2, E6 PC3, E7 VSSA, F1 PB12, F2 PB11, F3 PA7, F4 PA6, F5 PA5, F6 PA0, F7 VDDA, G1 VDD, G2 VSS, G3 PB2, G4 PB1, G5 PB0, G6 PA4, G7 PA1

## STM32L433CCTx
designator U?  value STM32L433CCTx  Reference: U
STMicroelectronics Arm Cortex-M4 MCU, 256KB flash, 64KB RAM, 80 MHz, 1.71-3.6V, 38 GPIO, LQFP48; ki_keywords: Arm Cortex-M4 STM32L4 STM32L4x3; ki_fp_filters: LQFP*7x7mm*P0.5mm*; Footprint: Package_QFP:LQFP-48_7x7mm_P0.5mm; Datasheet: https://www.st.com/resource/en/datasheet/stm32l433cc.pdf; Description_: STMicroelectronics Arm Cortex-M4 MCU, 256KB flash, 64KB RAM, 80 MHz, 1.71-3.6V, 38 GPIO, LQFP48
pins: 1 VBAT, 2 PC13, 3 PC14, 4 PC15, 5 PH0, 6 PH1, 7 NRST, 8 VSSA, 9 VDDA, 10 PA0, 11 PA1, 12 PA2, 13 PA3, 14 PA4, 15 PA5, 16 PA6, 17 PA7, 18 PB0, 19 PB1, 20 PB2, 21 PB10, 22 PB11, 23 VSS, 24 VDD, 25 PB12, 26 PB13, 27 PB14, 28 PB15, 29 PA8, 30 PA9, 31 PA10, 32 PA11, 33 PA12, 34 PA13, 35 VSS, 36 VDDUSB, 37 PA14, 38 PA15, 39 PB3, 40 PB4, 41 PB5, 42 PB6, 43 PB7, 44 PH3, 45 PB8, 46 PB9, 47 VSS, 48 VDD

## STM32L433CCUx
designator U?  value STM32L433CCUx  Reference: U
STMicroelectronics Arm Cortex-M4 MCU, 256KB flash, 64KB RAM, 80 MHz, 1.71-3.6V, 38 GPIO, UFQFPN48; ki_keywords: Arm Cortex-M4 STM32L4 STM32L4x3; ki_fp_filters: QFN*1EP*7x7mm*P0.5mm*; Footprint: Package_DFN_QFN:QFN-48-1EP_7x7mm_P0.5mm_EP5.6x5.6mm; Datasheet: https://www.st.com/resource/en/datasheet/stm32l433cc.pdf; Description_: STMicroelectronics Arm Cortex-M4 MCU, 256KB flash, 64KB RAM, 80 MHz, 1.71-3.6V, 38 GPIO, UFQFPN48
pins: 1 VBAT, 2 PC13, 3 PC14, 4 PC15, 5 PH0, 6 PH1, 7 NRST, 8 VSSA, 9 VDDA, 10 PA0, 11 PA1, 12 PA2, 13 PA3, 14 PA4, 15 PA5, 16 PA6, 17 PA7, 18 PB0, 19 PB1, 20 PB2, 21 PB10, 22 PB11, 23 VSS, 24 VDD, 25 PB12, 26 PB13, 27 PB14, 28 PB15, 29 PA8, 30 PA9, 31 PA10, 32 PA11, 33 PA12, 34 PA13, 35 VSS, 36 VDDUSB, 37 PA14, 38 PA15, 39 PB3, 40 PB4, 41 PB5, 42 PB6, 43 PB7, 44 PH3, 45 PB8, 46 PB9, 47 VSS, 48 VDD, 49 VSS

## STM32L433CCYx
designator U?  value STM32L433CCYx  Reference: U
STMicroelectronics Arm Cortex-M4 MCU, 256KB flash, 64KB RAM, 80 MHz, 1.71-3.6V, 39 GPIO, WLCSP49; ki_keywords: Arm Cortex-M4 STM32L4 STM32L4x3; ki_fp_filters: ST*WLCSP*Die435*; Footprint: Package_CSP:ST_WLCSP-49_Die435; Datasheet: https://www.st.com/resource/en/datasheet/stm32l433cc.pdf; Description_: STMicroelectronics Arm Cortex-M4 MCU, 256KB flash, 64KB RAM, 80 MHz, 1.71-3.6V, 39 GPIO, WLCSP49
pins: A1 VDDUSB, A2 PA14, A3 PB3, A4 PB4, A5 PH3, A6 VSS, A7 VDD, B1 VSS, B2 PA13, B3 PA15, B4 PB5, B5 PB8, B6 VBAT, B7 PC13, C1 PA11, C2 PA10, C3 PA12, C4 PB6, C5 PB9, C6 PC15, C7 PC14, D1 PA8, D2 PA9, D3 PB15, D4 PB7, D5 NRST, D6 PH1, D7 PH0, E1 PB14, E2 PB13, E3 PB10, E4 PA3, E5 PA2, E6 PC3, E7 VSSA, F1 PB12, F2 PB11, F3 PA7, F4 PA6, F5 PA5, F6 PA0, F7 VDDA, G1 VDD, G2 VSS, G3 PB2, G4 PB1, G5 PB0, G6 PA4, G7 PA1

## STM32L433R_B-C_Ix
designator U?  value STM32L433R_B-C_Ix  Reference: U
STMicroelectronics Arm Cortex-M4 MCU, 128-256KB flash, 64KB RAM, 80 MHz, 1.71-3.6V, 52 GPIO, UFBGA64; ki_keywords: Arm Cortex-M4 STM32L4 STM32L4x3; ki_fp_filters: UFBGA*5x5mm*Layout8x8*P0.5mm*; Footprint: Package_BGA:UFBGA-64_5x5mm_Layout8x8_P0.5mm; Datasheet: https://www.st.com/resource/en/datasheet/stm32l433rb.pdf; Description_: STMicroelectronics Arm Cortex-M4 MCU, 128-256KB flash, 64KB RAM, 80 MHz, 1.71-3.6V, 52 GPIO, UFBGA64
pins: A1 PC14, A2 PC13, A3 PB9, A4 PB4, A5 PB3, A6 PA15, A7 PA14, A8 PA13, B1 PC15, B2 VBAT, B3 PB8, B4 PH3, B5 PD2, B6 PC11, B7 PC10, B8 PA12, C1 PH0, C2 VSS, C3 PB7, C4 PB5, C5 PC12, C6 PA10, C7 PA9, C8 PA11, D1 PH1, D2 VDD, D3 PB6, D4 VSS, D5 VSS, D6 VSS, D7 PA8, D8 PC9, E1 NRST, E2 PC1, E3 PC0, E4 VDD, E5 VDDUSB, E6 VDD, E7 PC7, E8 PC8, F1 VSSA, F2 PC2, F3 PA2, F4 PA5, F5 PB0, F6 PC6, F7 PB15, F8 PB14, G1 PC3, G2 PA0, G3 PA3, G4 PA6, G5 PB1, G6 PB2, G7 PB10, G8 PB13, H1 VDDA, H2 PA1, H3 PA4, H4 PA7, H5 PC4, H6 PC5, H7 PB11, H8 PB12

## STM32L433R_B-C_Tx
designator U?  value STM32L433R_B-C_Tx  Reference: U
STMicroelectronics Arm Cortex-M4 MCU, 128-256KB flash, 64KB RAM, 80 MHz, 1.71-3.6V, 52 GPIO, LQFP64; ki_keywords: Arm Cortex-M4 STM32L4 STM32L4x3; ki_fp_filters: LQFP*10x10mm*P0.5mm*; Footprint: Package_QFP:LQFP-64_10x10mm_P0.5mm; Datasheet: https://www.st.com/resource/en/datasheet/stm32l433rb.pdf; Description_: STMicroelectronics Arm Cortex-M4 MCU, 128-256KB flash, 64KB RAM, 80 MHz, 1.71-3.6V, 52 GPIO, LQFP64
pins: 1 VBAT, 2 PC13, 3 PC14, 4 PC15, 5 PH0, 6 PH1, 7 NRST, 8 PC0, 9 PC1, 10 PC2, 11 PC3, 12 VSSA, 13 VDDA, 14 PA0, 15 PA1, 16 PA2, 17 PA3, 18 VSS, 19 VDD, 20 PA4, 21 PA5, 22 PA6, 23 PA7, 24 PC4, 25 PC5, 26 PB0, 27 PB1, 28 PB2, 29 PB10, 30 PB11, 31 VSS, 32 VDD, 33 PB12, 34 PB13, 35 PB14, 36 PB15, 37 PC6, 38 PC7, 39 PC8, 40 PC9, 41 PA8, 42 PA9, 43 PA10, 44 PA11, 45 PA12, 46 PA13, 47 VSS, 48 VDDUSB, 49 PA14, 50 PA15, 51 PC10, 52 PC11, 53 PC12, 54 PD2, 55 PB3, 56 PB4, 57 PB5, 58 PB6, 59 PB7, 60 PH3, 61 PB8, 62 PB9, 63 VSS, 64 VDD

## STM32L433R_B-C_Yx
designator U?  value STM32L433R_B-C_Yx  Reference: U
STMicroelectronics Arm Cortex-M4 MCU, 128-256KB flash, 64KB RAM, 80 MHz, 1.71-3.6V, 52 GPIO, WLCSP64; ki_keywords: Arm Cortex-M4 STM32L4 STM32L4x3; ki_fp_filters: ST*WLCSP*Die435*; Footprint: Package_CSP:ST_WLCSP-64_Die435; Datasheet: https://www.st.com/resource/en/datasheet/stm32l433rb.pdf; Description_: STMicroelectronics Arm Cortex-M4 MCU, 128-256KB flash, 64KB RAM, 80 MHz, 1.71-3.6V, 52 GPIO, WLCSP64
pins: A1 VDDUSB, A2 PA15, A3 PC12, A4 PD2, A5 PB3, A6 PB7, A7 VSS, A8 VDD, B1 VSS, B2 PA14, B3 PC11, B4 PB4, B5 PB6, B6 PB9, B7 VBAT, B8 PC13, C1 PA12, C2 PA13, C3 PC10, C4 PB5, C5 PH3, C6 PB8, C7 PC15, C8 PC14, D1 PA9, D2 PA10, D3 PA11, D4 PC4, D5 PC0, D6 NRST, D7 PH1, D8 PH0, E1 PC7, E2 PC9, E3 PA8, E4 PC5, E5 PA4, E6 PC3, E7 PC2, E8 PC1, F1 PC6, F2 PB15, F3 PC8, F4 PB0, F5 PA5, F6 PA2, F7 PA0, F8 VSSA, G1 PB14, G2 PB13, G3 PB12, G4 PB2, G5 PA6, G6 PA3, G7 PA1, G8 VDDA, H1 VDD, H2 VSS, H3 PB11, H4 PB10, H5 PB1, H6 PA7, H7 VDD, H8 VSS

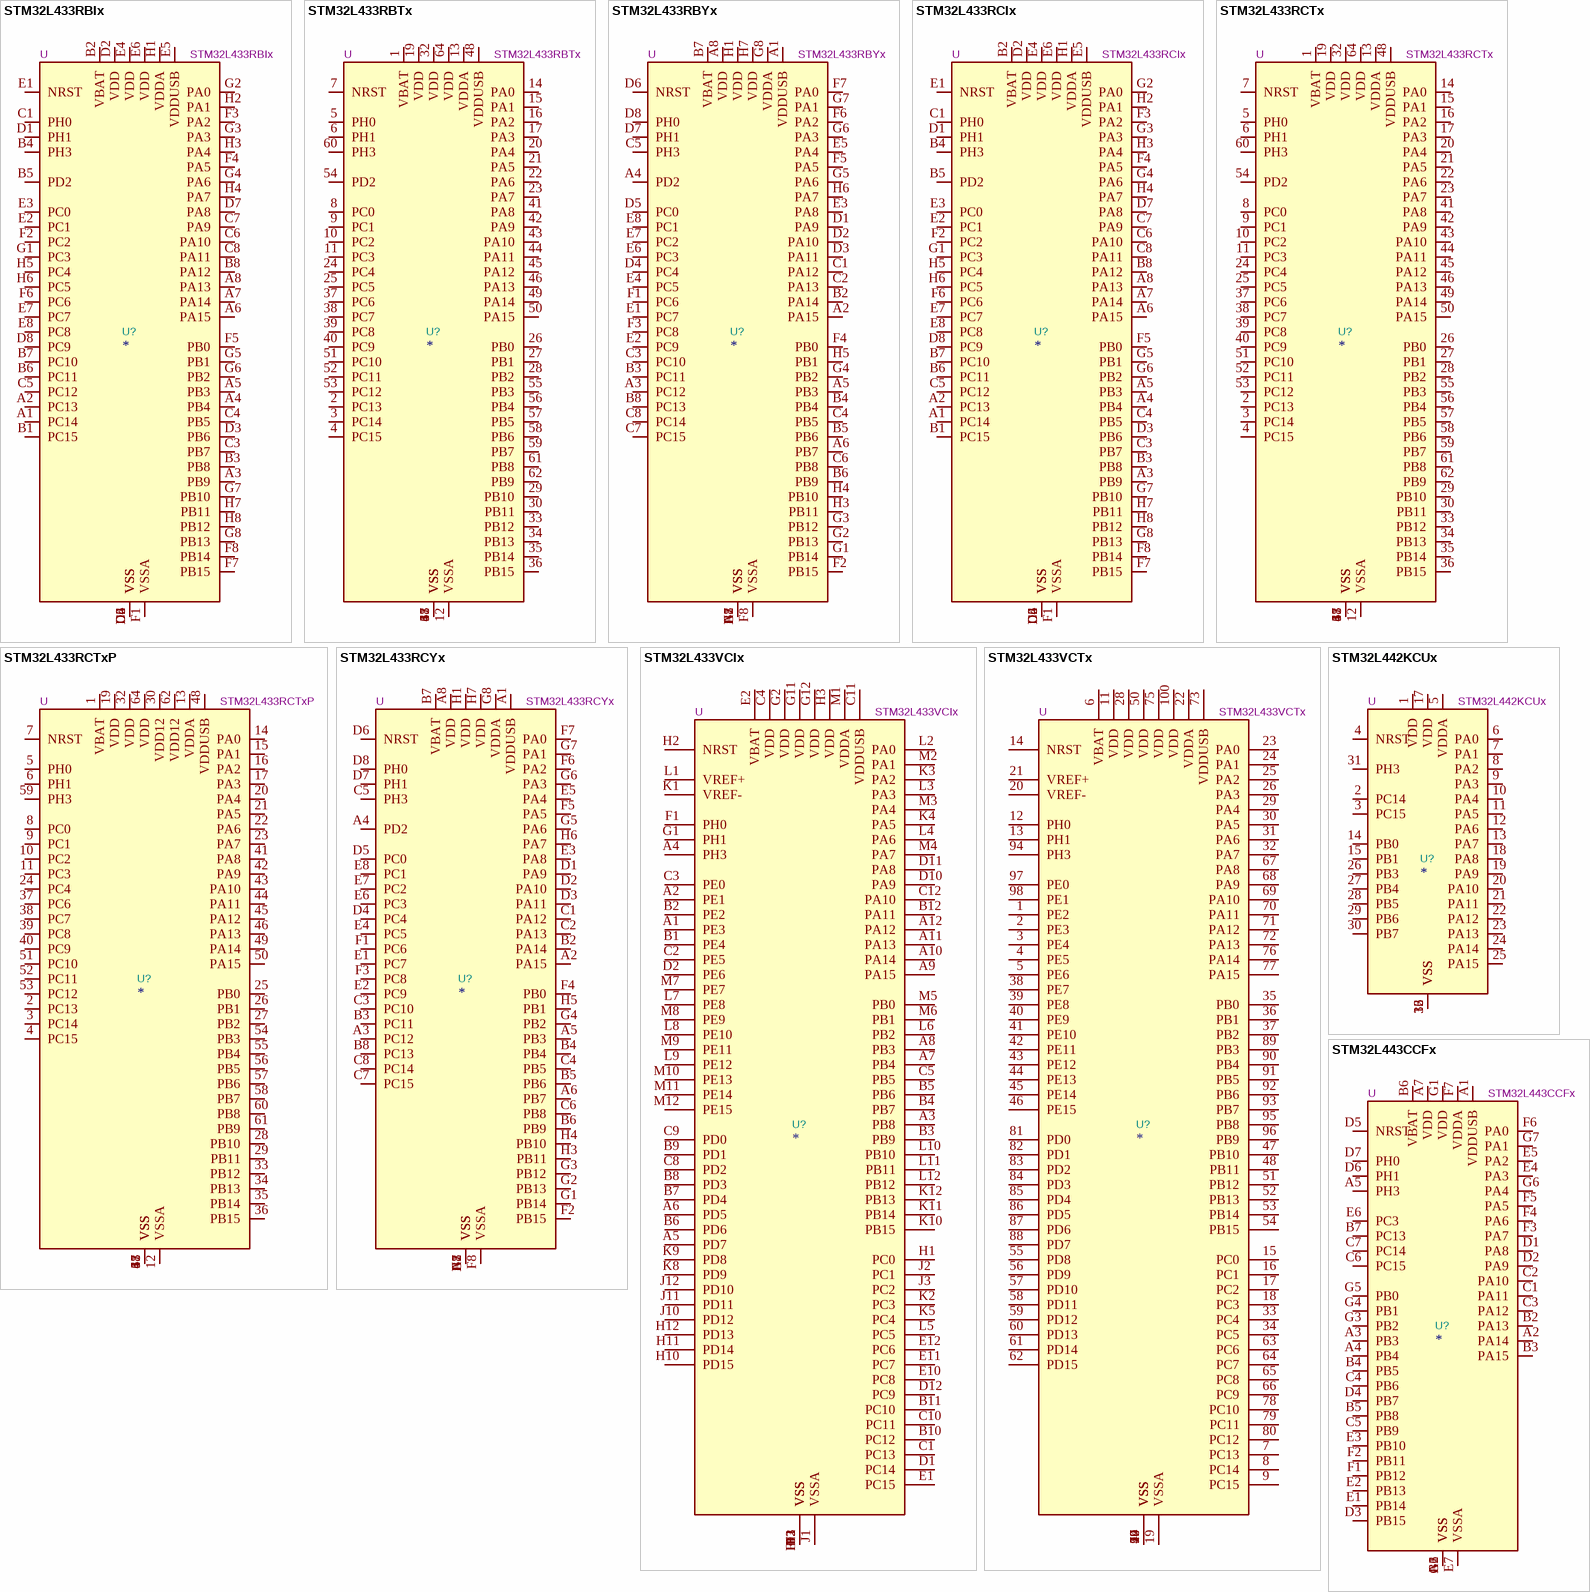
[diagram p38: symbols STM32L433RBIx to STM32L443CCFx]

## STM32L433RBIx
designator U?  value STM32L433RBIx  Reference: U
STMicroelectronics Arm Cortex-M4 MCU, 128KB flash, 64KB RAM, 80 MHz, 1.71-3.6V, 52 GPIO, UFBGA64; ki_keywords: Arm Cortex-M4 STM32L4 STM32L4x3; ki_fp_filters: UFBGA*5x5mm*Layout8x8*P0.5mm*; Footprint: Package_BGA:UFBGA-64_5x5mm_Layout8x8_P0.5mm; Datasheet: https://www.st.com/resource/en/datasheet/stm32l433rb.pdf; Description_: STMicroelectronics Arm Cortex-M4 MCU, 128KB flash, 64KB RAM, 80 MHz, 1.71-3.6V, 52 GPIO, UFBGA64
pins: A1 PC14, A2 PC13, A3 PB9, A4 PB4, A5 PB3, A6 PA15, A7 PA14, A8 PA13, B1 PC15, B2 VBAT, B3 PB8, B4 PH3, B5 PD2, B6 PC11, B7 PC10, B8 PA12, C1 PH0, C2 VSS, C3 PB7, C4 PB5, C5 PC12, C6 PA10, C7 PA9, C8 PA11, D1 PH1, D2 VDD, D3 PB6, D4 VSS, D5 VSS, D6 VSS, D7 PA8, D8 PC9, E1 NRST, E2 PC1, E3 PC0, E4 VDD, E5 VDDUSB, E6 VDD, E7 PC7, E8 PC8, F1 VSSA, F2 PC2, F3 PA2, F4 PA5, F5 PB0, F6 PC6, F7 PB15, F8 PB14, G1 PC3, G2 PA0, G3 PA3, G4 PA6, G5 PB1, G6 PB2, G7 PB10, G8 PB13, H1 VDDA, H2 PA1, H3 PA4, H4 PA7, H5 PC4, H6 PC5, H7 PB11, H8 PB12

## STM32L433RBTx
designator U?  value STM32L433RBTx  Reference: U
STMicroelectronics Arm Cortex-M4 MCU, 128KB flash, 64KB RAM, 80 MHz, 1.71-3.6V, 52 GPIO, LQFP64; ki_keywords: Arm Cortex-M4 STM32L4 STM32L4x3; ki_fp_filters: LQFP*10x10mm*P0.5mm*; Footprint: Package_QFP:LQFP-64_10x10mm_P0.5mm; Datasheet: https://www.st.com/resource/en/datasheet/stm32l433rb.pdf; Description_: STMicroelectronics Arm Cortex-M4 MCU, 128KB flash, 64KB RAM, 80 MHz, 1.71-3.6V, 52 GPIO, LQFP64
pins: 1 VBAT, 2 PC13, 3 PC14, 4 PC15, 5 PH0, 6 PH1, 7 NRST, 8 PC0, 9 PC1, 10 PC2, 11 PC3, 12 VSSA, 13 VDDA, 14 PA0, 15 PA1, 16 PA2, 17 PA3, 18 VSS, 19 VDD, 20 PA4, 21 PA5, 22 PA6, 23 PA7, 24 PC4, 25 PC5, 26 PB0, 27 PB1, 28 PB2, 29 PB10, 30 PB11, 31 VSS, 32 VDD, 33 PB12, 34 PB13, 35 PB14, 36 PB15, 37 PC6, 38 PC7, 39 PC8, 40 PC9, 41 PA8, 42 PA9, 43 PA10, 44 PA11, 45 PA12, 46 PA13, 47 VSS, 48 VDDUSB, 49 PA14, 50 PA15, 51 PC10, 52 PC11, 53 PC12, 54 PD2, 55 PB3, 56 PB4, 57 PB5, 58 PB6, 59 PB7, 60 PH3, 61 PB8, 62 PB9, 63 VSS, 64 VDD

## STM32L433RBYx
designator U?  value STM32L433RBYx  Reference: U
STMicroelectronics Arm Cortex-M4 MCU, 128KB flash, 64KB RAM, 80 MHz, 1.71-3.6V, 52 GPIO, WLCSP64; ki_keywords: Arm Cortex-M4 STM32L4 STM32L4x3; ki_fp_filters: ST*WLCSP*Die435*; Footprint: Package_CSP:ST_WLCSP-64_Die435; Datasheet: https://www.st.com/resource/en/datasheet/stm32l433rb.pdf; Description_: STMicroelectronics Arm Cortex-M4 MCU, 128KB flash, 64KB RAM, 80 MHz, 1.71-3.6V, 52 GPIO, WLCSP64
pins: A1 VDDUSB, A2 PA15, A3 PC12, A4 PD2, A5 PB3, A6 PB7, A7 VSS, A8 VDD, B1 VSS, B2 PA14, B3 PC11, B4 PB4, B5 PB6, B6 PB9, B7 VBAT, B8 PC13, C1 PA12, C2 PA13, C3 PC10, C4 PB5, C5 PH3, C6 PB8, C7 PC15, C8 PC14, D1 PA9, D2 PA10, D3 PA11, D4 PC4, D5 PC0, D6 NRST, D7 PH1, D8 PH0, E1 PC7, E2 PC9, E3 PA8, E4 PC5, E5 PA4, E6 PC3, E7 PC2, E8 PC1, F1 PC6, F2 PB15, F3 PC8, F4 PB0, F5 PA5, F6 PA2, F7 PA0, F8 VSSA, G1 PB14, G2 PB13, G3 PB12, G4 PB2, G5 PA6, G6 PA3, G7 PA1, G8 VDDA, H1 VDD, H2 VSS, H3 PB11, H4 PB10, H5 PB1, H6 PA7, H7 VDD, H8 VSS

## STM32L433RCIx
designator U?  value STM32L433RCIx  Reference: U
STMicroelectronics Arm Cortex-M4 MCU, 256KB flash, 64KB RAM, 80 MHz, 1.71-3.6V, 52 GPIO, UFBGA64; ki_keywords: Arm Cortex-M4 STM32L4 STM32L4x3; ki_fp_filters: UFBGA*5x5mm*Layout8x8*P0.5mm*; Footprint: Package_BGA:UFBGA-64_5x5mm_Layout8x8_P0.5mm; Datasheet: https://www.st.com/resource/en/datasheet/stm32l433rc.pdf; Description_: STMicroelectronics Arm Cortex-M4 MCU, 256KB flash, 64KB RAM, 80 MHz, 1.71-3.6V, 52 GPIO, UFBGA64
pins: A1 PC14, A2 PC13, A3 PB9, A4 PB4, A5 PB3, A6 PA15, A7 PA14, A8 PA13, B1 PC15, B2 VBAT, B3 PB8, B4 PH3, B5 PD2, B6 PC11, B7 PC10, B8 PA12, C1 PH0, C2 VSS, C3 PB7, C4 PB5, C5 PC12, C6 PA10, C7 PA9, C8 PA11, D1 PH1, D2 VDD, D3 PB6, D4 VSS, D5 VSS, D6 VSS, D7 PA8, D8 PC9, E1 NRST, E2 PC1, E3 PC0, E4 VDD, E5 VDDUSB, E6 VDD, E7 PC7, E8 PC8, F1 VSSA, F2 PC2, F3 PA2, F4 PA5, F5 PB0, F6 PC6, F7 PB15, F8 PB14, G1 PC3, G2 PA0, G3 PA3, G4 PA6, G5 PB1, G6 PB2, G7 PB10, G8 PB13, H1 VDDA, H2 PA1, H3 PA4, H4 PA7, H5 PC4, H6 PC5, H7 PB11, H8 PB12

## STM32L433RCTx
designator U?  value STM32L433RCTx  Reference: U
STMicroelectronics Arm Cortex-M4 MCU, 256KB flash, 64KB RAM, 80 MHz, 1.71-3.6V, 52 GPIO, LQFP64; ki_keywords: Arm Cortex-M4 STM32L4 STM32L4x3; ki_fp_filters: LQFP*10x10mm*P0.5mm*; Footprint: Package_QFP:LQFP-64_10x10mm_P0.5mm; Datasheet: https://www.st.com/resource/en/datasheet/stm32l433rc.pdf; Description_: STMicroelectronics Arm Cortex-M4 MCU, 256KB flash, 64KB RAM, 80 MHz, 1.71-3.6V, 52 GPIO, LQFP64
pins: 1 VBAT, 2 PC13, 3 PC14, 4 PC15, 5 PH0, 6 PH1, 7 NRST, 8 PC0, 9 PC1, 10 PC2, 11 PC3, 12 VSSA, 13 VDDA, 14 PA0, 15 PA1, 16 PA2, 17 PA3, 18 VSS, 19 VDD, 20 PA4, 21 PA5, 22 PA6, 23 PA7, 24 PC4, 25 PC5, 26 PB0, 27 PB1, 28 PB2, 29 PB10, 30 PB11, 31 VSS, 32 VDD, 33 PB12, 34 PB13, 35 PB14, 36 PB15, 37 PC6, 38 PC7, 39 PC8, 40 PC9, 41 PA8, 42 PA9, 43 PA10, 44 PA11, 45 PA12, 46 PA13, 47 VSS, 48 VDDUSB, 49 PA14, 50 PA15, 51 PC10, 52 PC11, 53 PC12, 54 PD2, 55 PB3, 56 PB4, 57 PB5, 58 PB6, 59 PB7, 60 PH3, 61 PB8, 62 PB9, 63 VSS, 64 VDD

## STM32L433RCTxP
designator U?  value STM32L433RCTxP  Reference: U
STMicroelectronics Arm Cortex-M4 MCU, 256KB flash, 64KB RAM, 80 MHz, 1.71-3.6V, 50 GPIO, LQFP64; ki_keywords: Arm Cortex-M4 STM32L4 STM32L4x3; ki_fp_filters: LQFP*10x10mm*P0.5mm*; Footprint: Package_QFP:LQFP-64_10x10mm_P0.5mm; Datasheet: https://www.st.com/resource/en/datasheet/stm32l433rc.pdf; Description_: STMicroelectronics Arm Cortex-M4 MCU, 256KB flash, 64KB RAM, 80 MHz, 1.71-3.6V, 50 GPIO, LQFP64
pins: 1 VBAT, 2 PC13, 3 PC14, 4 PC15, 5 PH0, 6 PH1, 7 NRST, 8 PC0, 9 PC1, 10 PC2, 11 PC3, 12 VSSA, 13 VDDA, 14 PA0, 15 PA1, 16 PA2, 17 PA3, 18 VSS, 19 VDD, 20 PA4, 21 PA5, 22 PA6, 23 PA7, 24 PC4, 25 PB0, 26 PB1, 27 PB2, 28 PB10, 29 PB11, 30 VDD12, 31 VSS, 32 VDD, 33 PB12, 34 PB13, 35 PB14, 36 PB15, 37 PC6, 38 PC7, 39 PC8, 40 PC9, 41 PA8, 42 PA9, 43 PA10, 44 PA11, 45 PA12, 46 PA13, 47 VSS, 48 VDDUSB, 49 PA14, 50 PA15, 51 PC10, 52 PC11, 53 PC12, 54 PB3, 55 PB4, 56 PB5, 57 PB6, 58 PB7, 59 PH3, 60 PB8, 61 PB9, 62 VDD12, 63 VSS, 64 VDD

## STM32L433RCYx
designator U?  value STM32L433RCYx  Reference: U
STMicroelectronics Arm Cortex-M4 MCU, 256KB flash, 64KB RAM, 80 MHz, 1.71-3.6V, 52 GPIO, WLCSP64; ki_keywords: Arm Cortex-M4 STM32L4 STM32L4x3; ki_fp_filters: ST*WLCSP*Die435*; Footprint: Package_CSP:ST_WLCSP-64_Die435; Datasheet: https://www.st.com/resource/en/datasheet/stm32l433rc.pdf; Description_: STMicroelectronics Arm Cortex-M4 MCU, 256KB flash, 64KB RAM, 80 MHz, 1.71-3.6V, 52 GPIO, WLCSP64
pins: A1 VDDUSB, A2 PA15, A3 PC12, A4 PD2, A5 PB3, A6 PB7, A7 VSS, A8 VDD, B1 VSS, B2 PA14, B3 PC11, B4 PB4, B5 PB6, B6 PB9, B7 VBAT, B8 PC13, C1 PA12, C2 PA13, C3 PC10, C4 PB5, C5 PH3, C6 PB8, C7 PC15, C8 PC14, D1 PA9, D2 PA10, D3 PA11, D4 PC4, D5 PC0, D6 NRST, D7 PH1, D8 PH0, E1 PC7, E2 PC9, E3 PA8, E4 PC5, E5 PA4, E6 PC3, E7 PC2, E8 PC1, F1 PC6, F2 PB15, F3 PC8, F4 PB0, F5 PA5, F6 PA2, F7 PA0, F8 VSSA, G1 PB14, G2 PB13, G3 PB12, G4 PB2, G5 PA6, G6 PA3, G7 PA1, G8 VDDA, H1 VDD, H2 VSS, H3 PB11, H4 PB10, H5 PB1, H6 PA7, H7 VDD, H8 VSS

## STM32L433VCIx
designator U?  value STM32L433VCIx  Reference: U
STMicroelectronics Arm Cortex-M4 MCU, 256KB flash, 64KB RAM, 80 MHz, 1.71-3.6V, 83 GPIO, UFBGA100; ki_keywords: Arm Cortex-M4 STM32L4 STM32L4x3; ki_fp_filters: UFBGA*7x7mm*Layout12x12*P0.5mm*; Footprint: Package_BGA:UFBGA-100_7x7mm_Layout12x12_P0.5mm; Datasheet: https://www.st.com/resource/en/datasheet/stm32l433vc.pdf; Description_: STMicroelectronics Arm Cortex-M4 MCU, 256KB flash, 64KB RAM, 80 MHz, 1.71-3.6V, 83 GPIO, UFBGA100
pins: A1 PE3, A2 PE1, A3 PB8, A4 PH3, A5 PD7, A6 PD5, A7 PB4, A8 PB3, A9 PA15, A10 PA14, A11 PA13, A12 PA12, B1 PE4, B2 PE2, B3 PB9, B4 PB7, B5 PB6, B6 PD6, B7 PD4, B8 PD3, B9 PD1, B10 PC12, B11 PC10, B12 PA11, C1 PC13, C2 PE5, C3 PE0, C4 VDD, C5 PB5, C8 PD2, C9 PD0, C10 PC11, C11 VDDUSB, C12 PA10, D1 PC14, D2 PE6, D3 VSS, D10 PA9, D11 PA8, D12 PC9, E1 PC15, E2 VBAT, E3 VSS, E10 PC8, E11 PC7, E12 PC6, F1 PH0, F2 VSS, F11 VSS, F12 VSS, G1 PH1, G2 VDD, G11 VDD, G12 VDD, H1 PC0, H2 NRST, H3 VDD, H10 PD15, H11 PD14, H12 PD13, J1 VSSA, J2 PC1, J3 PC2, J10 PD12, J11 PD11, J12 PD10, K1 VREF-, K2 PC3, K3 PA2, K4 PA5, K5 PC4, K8 PD9, K9 PD8, K10 PB15, K11 PB14, K12 PB13, L1 VREF+, L2 PA0, L3 PA3, L4 PA6, L5 PC5, L6 PB2, L7 PE8, L8 PE10, L9 PE12, L10 PB10, L11 PB11, L12 PB12, M1 VDDA, M2 PA1, M3 PA4, M4 PA7, M5 PB0, M6 PB1, M7 PE7, M8 PE9, M9 PE11, M10 PE13, M11 PE14, M12 PE15

## STM32L433VCTx
designator U?  value STM32L433VCTx  Reference: U
STMicroelectronics Arm Cortex-M4 MCU, 256KB flash, 64KB RAM, 80 MHz, 1.71-3.6V, 83 GPIO, LQFP100; ki_keywords: Arm Cortex-M4 STM32L4 STM32L4x3; ki_fp_filters: LQFP*14x14mm*P0.5mm*; Footprint: Package_QFP:LQFP-100_14x14mm_P0.5mm; Datasheet: https://www.st.com/resource/en/datasheet/stm32l433vc.pdf; Description_: STMicroelectronics Arm Cortex-M4 MCU, 256KB flash, 64KB RAM, 80 MHz, 1.71-3.6V, 83 GPIO, LQFP100
pins: 1 PE2, 2 PE3, 3 PE4, 4 PE5, 5 PE6, 6 VBAT, 7 PC13, 8 PC14, 9 PC15, 10 VSS, 11 VDD, 12 PH0, 13 PH1, 14 NRST, 15 PC0, 16 PC1, 17 PC2, 18 PC3, 19 VSSA, 20 VREF-, 21 VREF+, 22 VDDA, 23 PA0, 24 PA1, 25 PA2, 26 PA3, 27 VSS, 28 VDD, 29 PA4, 30 PA5, 31 PA6, 32 PA7, 33 PC4, 34 PC5, 35 PB0, 36 PB1, 37 PB2, 38 PE7, 39 PE8, 40 PE9, 41 PE10, 42 PE11, 43 PE12, 44 PE13, 45 PE14, 46 PE15, 47 PB10, 48 PB11, 49 VSS, 50 VDD, 51 PB12, 52 PB13, 53 PB14, 54 PB15, 55 PD8, 56 PD9, 57 PD10, 58 PD11, 59 PD12, 60 PD13, 61 PD14, 62 PD15, 63 PC6, 64 PC7, 65 PC8, 66 PC9, 67 PA8, 68 PA9, 69 PA10, 70 PA11, 71 PA12, 72 PA13, 73 VDDUSB, 74 VSS, 75 VDD, 76 PA14, 77 PA15, 78 PC10, 79 PC11, 80 PC12, 81 PD0, 82 PD1, 83 PD2, 84 PD3, 85 PD4, 86 PD5, 87 PD6, 88 PD7, 89 PB3, 90 PB4, 91 PB5, 92 PB6, 93 PB7, 94 PH3, 95 PB8, 96 PB9, 97 PE0, 98 PE1, 99 VSS, 100 VDD

## STM32L442KCUx
designator U?  value STM32L442KCUx  Reference: U
STMicroelectronics Arm Cortex-M4 MCU, 256KB flash, 64KB RAM, 80 MHz, 1.71-3.6V, 26 GPIO, UFQFPN32; ki_keywords: Arm Cortex-M4 STM32L4 STM32L4x2; ki_fp_filters: QFN*1EP*5x5mm*P0.5mm*; Footprint: Package_DFN_QFN:QFN-32-1EP_5x5mm_P0.5mm_EP3.45x3.45mm; Datasheet: https://www.st.com/resource/en/datasheet/stm32l442kc.pdf; Description_: STMicroelectronics Arm Cortex-M4 MCU, 256KB flash, 64KB RAM, 80 MHz, 1.71-3.6V, 26 GPIO, UFQFPN32
pins: 1 VDD, 2 PC14, 3 PC15, 4 NRST, 5 VDDA, 6 PA0, 7 PA1, 8 PA2, 9 PA3, 10 PA4, 11 PA5, 12 PA6, 13 PA7, 14 PB0, 15 PB1, 16 VSS, 17 VDD, 18 PA8, 19 PA9, 20 PA10, 21 PA11, 22 PA12, 23 PA13, 24 PA14, 25 PA15, 26 PB3, 27 PB4, 28 PB5, 29 PB6, 30 PB7, 31 PH3, 32 VSS, 33 VSS

## STM32L443CCFx
designator U?  value STM32L443CCFx  Reference: U
STMicroelectronics Arm Cortex-M4 MCU, 256KB flash, 64KB RAM, 80 MHz, 1.71-3.6V, 39 GPIO, WLCSP49; ki_keywords: Arm Cortex-M4 STM32L4 STM32L4x3; ki_fp_filters: ST*WLCSP*Die435*; Footprint: Package_CSP:ST_WLCSP-49_Die435; Datasheet: https://www.st.com/resource/en/datasheet/stm32l443cc.pdf; Description_: STMicroelectronics Arm Cortex-M4 MCU, 256KB flash, 64KB RAM, 80 MHz, 1.71-3.6V, 39 GPIO, WLCSP49
pins: A1 VDDUSB, A2 PA14, A3 PB3, A4 PB4, A5 PH3, A6 VSS, A7 VDD, B1 VSS, B2 PA13, B3 PA15, B4 PB5, B5 PB8, B6 VBAT, B7 PC13, C1 PA11, C2 PA10, C3 PA12, C4 PB6, C5 PB9, C6 PC15, C7 PC14, D1 PA8, D2 PA9, D3 PB15, D4 PB7, D5 NRST, D6 PH1, D7 PH0, E1 PB14, E2 PB13, E3 PB10, E4 PA3, E5 PA2, E6 PC3, E7 VSSA, F1 PB12, F2 PB11, F3 PA7, F4 PA6, F5 PA5, F6 PA0, F7 VDDA, G1 VDD, G2 VSS, G3 PB2, G4 PB1, G5 PB0, G6 PA4, G7 PA1

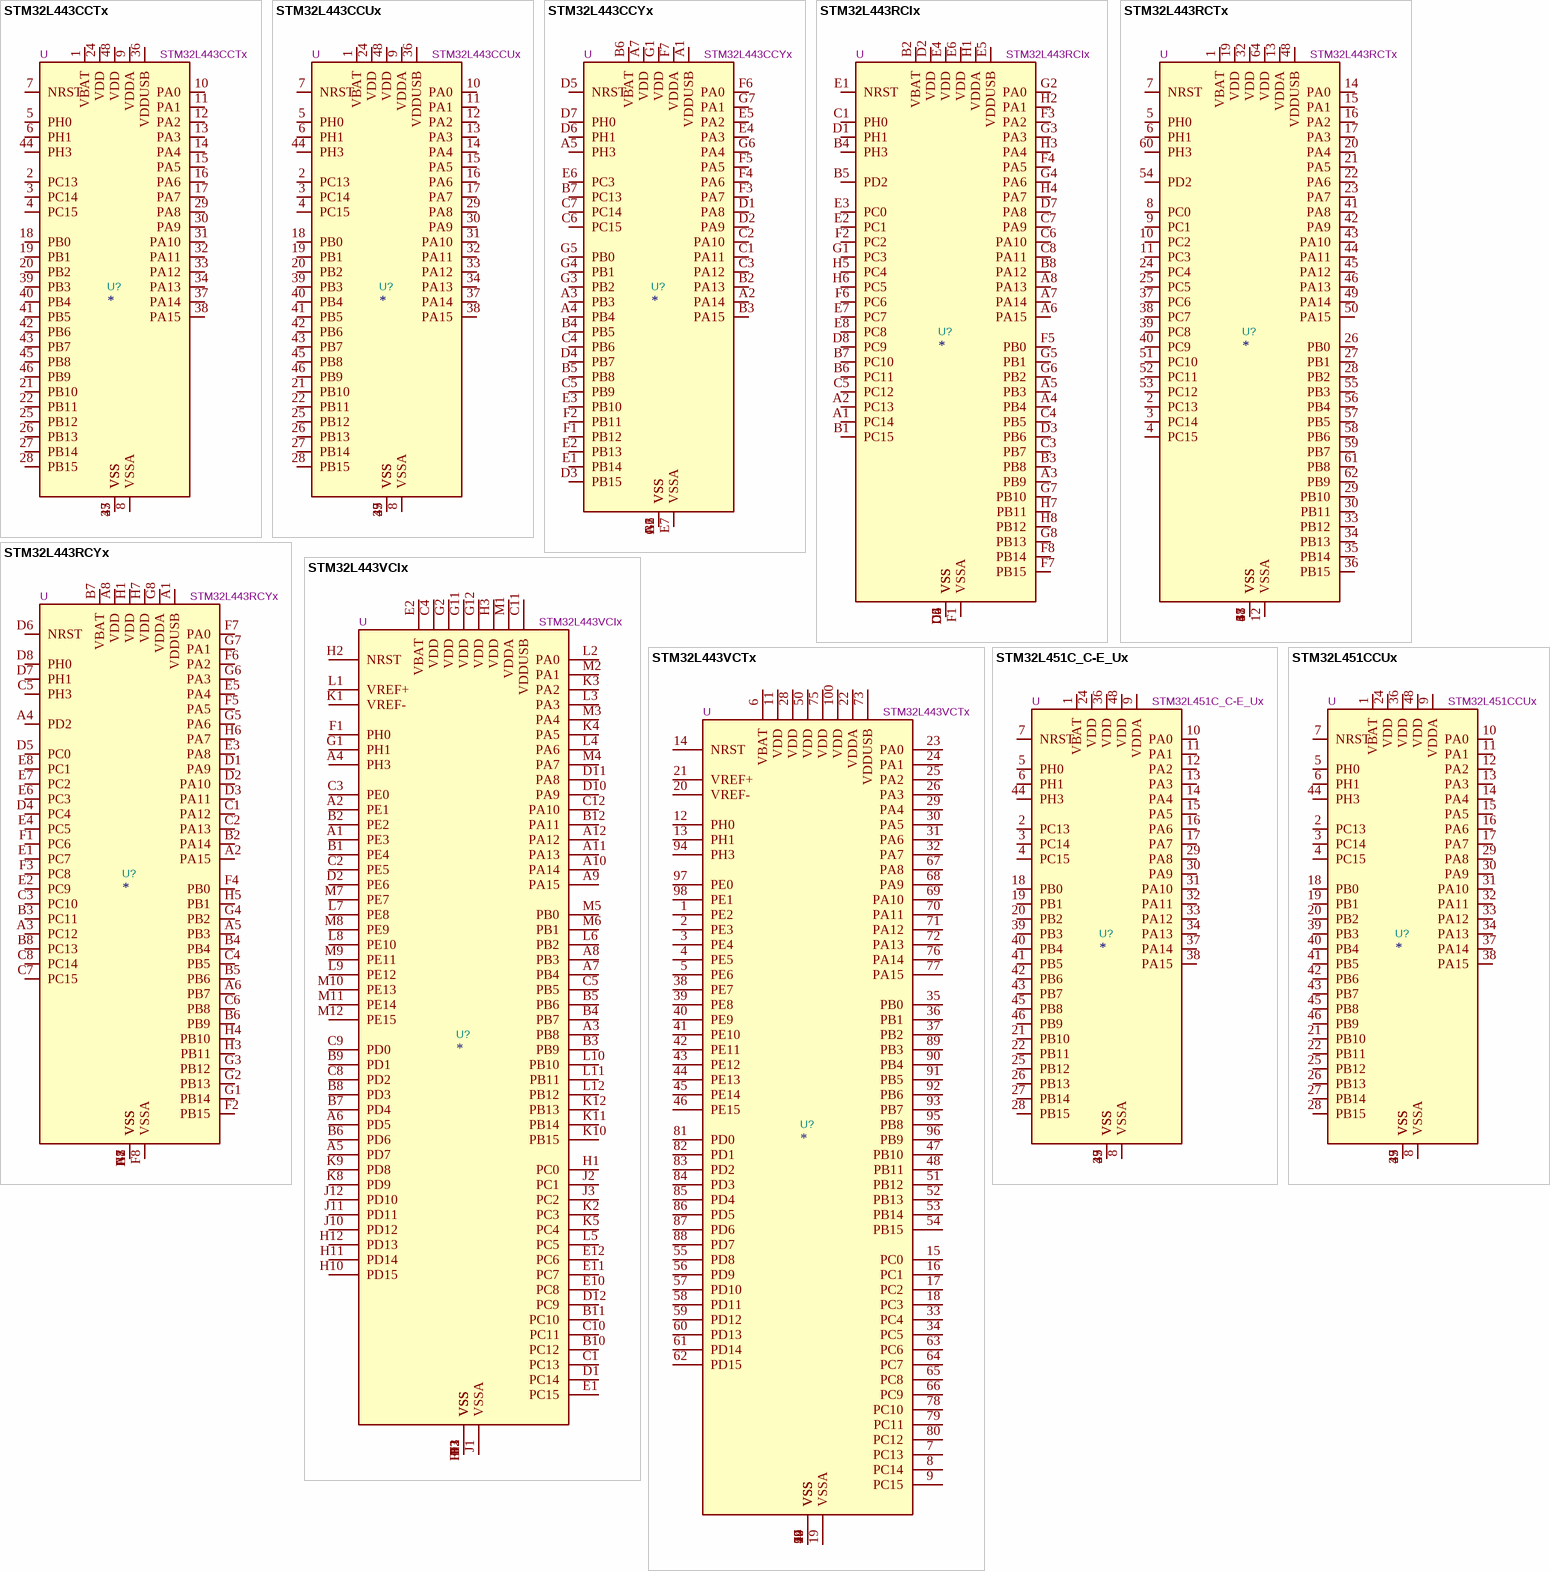
[diagram p39: symbols STM32L443CCTx to STM32L451CCUx]